# Altium integrated library Renesas Microcontroller M32C.IntLib: 109 symbols (part 6 of 11)
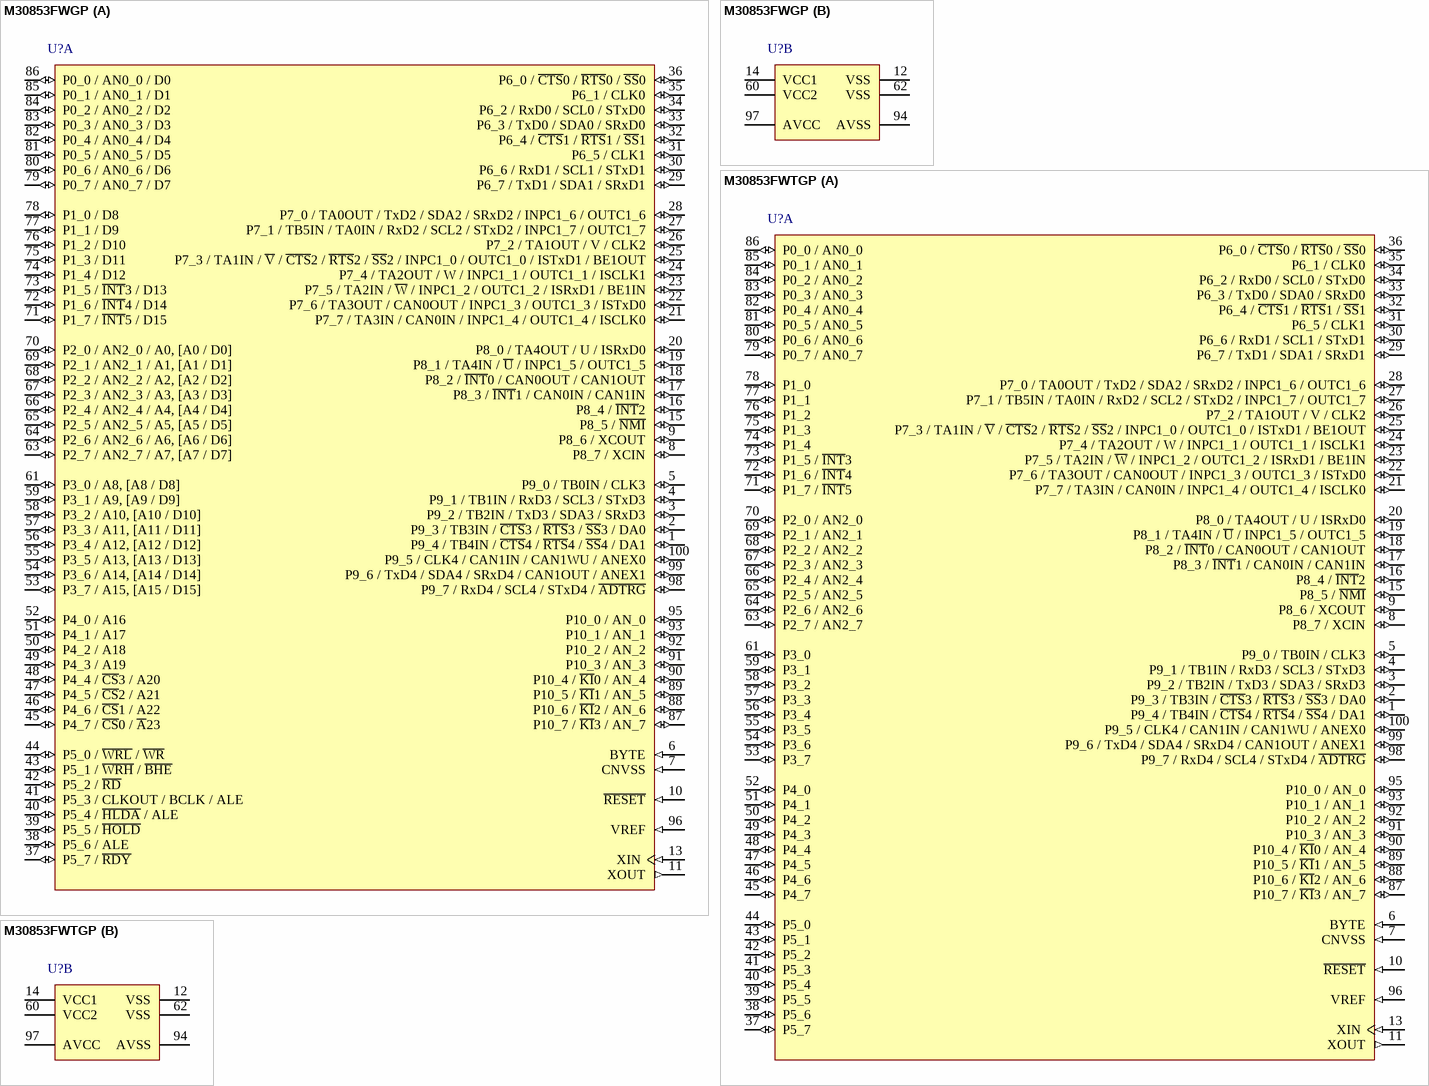
[diagram p79: symbols M30853FWGP to M30853FWTGP]

## M30853FWTGP
designator U?
Flash Memory M32C/80 Series, 85 Group MCU, 320K + 4K ROM, 24K RAM, 100-pin LQFP, Version T; Note: Bus control pins in M32C/85T cannot be used.; Published: 28-Aug-2009; DatasheetVersion: Rev.1.03, Jul-2005; PackageVersion: Sep-2005; PackageReference: PLQP0100KB-A; Publisher: Altium Limited; PackageDescription: 100-Pin Plastic Low Profile QFP, 14 x 14 x 1.4 mm Body, 0.5 mm Pitch; Code_JEITA: P-LQFP100-14x14-0.50; Code_IPC: SQFP50P1600X1600-100; ComponentLink1Description: Manufacturer Link; ComponentLink1URL: http://sg.renesas.com/fmwk.jsp?cnt=m16c_family_landing.jsp&fp=/products/mpumcu/m16c_family/; ComponentLink2Description: Datasheet; ComponentLink2URL: http://documentation.renesas.com/eng/products/mpumcu/rej09b0037_32c85hm.pdf; ComponentLink3Description: Packaging Specification; ComponentLink3URL: http://sg.renesas.com/media/products/common_info/package/pdf/ic/code/plqp0100kb_a.pdf
footprint PLQP0100KB-A_N (Shrink QFP, 100-Leads, Body 14x14mm, Pitch 0.5mm, IPC Medium Density)
footprint PLQP0100KB-A_L (Shrink QFP, 100-Leads, Body 14x14mm, Pitch 0.5mm, IPC High Density)
footprint PLQP0100KB-A_M (Shrink QFP, 100-Leads, Body 14x14mm, Pitch 0.5mm, IPC Low Density)
part A pins: 1 P9_4 / TB4IN / ~{CTS}4 / ~{RTS}4 / ~{SS}4 / DA1 (io), 2 P9_3 / TB3IN / ~{CTS}3 / ~{RTS}3 / ~{SS}3 / DA0 (io), 3 P9_2 / TB2IN / TxD3 / SDA3 / SRxD3 (io), 4 P9_1 / TB1IN / RxD3 / SCL3 / STxD3 (io), 5 P9_0 / TB0IN / CLK3 (io), 6 BYTE (in), 7 CNVSS (in), 8 P8_7 / XCIN (io), 9 P8_6 / XCOUT (io), 10 ~{RESET} (in), 11 XOUT (out), 13 XIN (in), 15 P8_5 / ~{NMI} (io), 16 P8_4 / ~{INT}2 (io), 17 P8_3 / ~{INT}1 / CAN0IN / CAN1IN (io), 18 P8_2 / ~{INT}0 / CAN0OUT / CAN1OUT (io), 19 P8_1 / TA4IN / ~{U} / INPC1_5 / OUTC1_5 (io), 20 P8_0 / TA4OUT / U / ISRxD0 (io), 21 P7_7 / TA3IN / CAN0IN / INPC1_4 / OUTC1_4 / ISCLK0 (io), 22 P7_6 / TA3OUT / CAN0OUT / INPC1_3 / OUTC1_3 / ISTxD0 (io), 23 P7_5 / TA2IN / ~{W} / INPC1_2 / OUTC1_2 / ISRxD1 / BE1IN (io), 24 P7_4 / TA2OUT / W / INPC1_1 / OUTC1_1 / ISCLK1 (io), 25 P7_3 / TA1IN / ~{V} / ~{CTS}2 / ~{RTS}2 / ~{SS}2 / INPC1_0 / OUTC1_0 / ISTxD1 / BE1OUT (io), 26 P7_2 / TA1OUT / V / CLK2 (io), 27 P7_1 / TB5IN / TA0IN / RxD2 / SCL2 / STxD2 / INPC1_7 / OUTC1_7 (io), 28 P7_0 / TA0OUT / TxD2 / SDA2 / SRxD2 / INPC1_6 / OUTC1_6 (io), 29 P6_7 / TxD1 / SDA1 / SRxD1 (io), 30 P6_6 / RxD1 / SCL1 / STxD1 (io), 31 P6_5 / CLK1 (io), 32 P6_4 / ~{CTS}1 / ~{RTS}1 / ~{SS}1 (io), 33 P6_3 / TxD0 / SDA0 / SRxD0 (io), 34 P6_2 / RxD0 / SCL0 / STxD0 (io), 35 P6_1 / CLK0 (io), 36 P6_0 / ~{CTS}0 / ~{RTS}0 / ~{SS}0 (io), 37 P5_7 (io), 38 P5_6 (io), 39 P5_5 (io), 40 P5_4 (io), 41 P5_3 (io), 42 P5_2 (io), 43 P5_1 (io), 44 P5_0 (io), 45 P4_7 (io), 46 P4_6 (io), 47 P4_5 (io), 48 P4_4 (io), 49 P4_3 (io), 50 P4_2 (io), 51 P4_1 (io), 52 P4_0 (io), 53 P3_7 (io), 54 P3_6 (io), 55 P3_5 (io), 56 P3_4 (io), 57 P3_3 (io), 58 P3_2 (io), 59 P3_1 (io), 61 P3_0 (io), 63 P2_7 / AN2_7 (io), 64 P2_6 / AN2_6 (io), 65 P2_5 / AN2_5 (io), 66 P2_4 / AN2_4 (io), 67 P2_3 / AN2_3 (io), 68 P2_2 / AN2_2 (io), 69 P2_1 / AN2_1 (io), 70 P2_0 / AN2_0 (io), 71 P1_7 / ~{INT}5 (io), 72 P1_6 / ~{INT}4 (io), 73 P1_5 / ~{INT}3 (io), 74 P1_4 (io), 75 P1_3 (io), 76 P1_2 (io), 77 P1_1 (io), 78 P1_0 (io), 79 P0_7 / AN0_7 (io), 80 P0_6 / AN0_6 (io), 81 P0_5 / AN0_5 (io), 82 P0_4 / AN0_4 (io), 83 P0_3 / AN0_3 (io), 84 P0_2 / AN0_2 (io), 85 P0_1 / AN0_1 (io), 86 P0_0 / AN0_0 (io), 87 P10_7 / ~{KI}3 / AN_7 (io), 88 P10_6 / ~{KI}2 / AN_6 (io), 89 P10_5 / ~{KI}1 / AN_5 (io), 90 P10_4 / ~{KI}0 / AN_4 (io), 91 P10_3 / AN_3 (io), 92 P10_2 / AN_2 (io), 93 P10_1 / AN_1 (io), 95 P10_0 / AN_0 (io), 96 VREF (in), 98 P9_7 / RxD4 / SCL4 / STxD4 / ~{ADTRG} (io), 99 P9_6 / TxD4 / SDA4 / SRxD4 / CAN1OUT / ANEX1 (io), 100 P9_5 / CLK4 / CAN1IN / CAN1WU / ANEX0 (io)
part B pins: 12 VSS (power), 14 VCC1 (power), 60 VCC2 (power), 62 VSS (power), 94 AVSS (power), 97 AVCC (power)

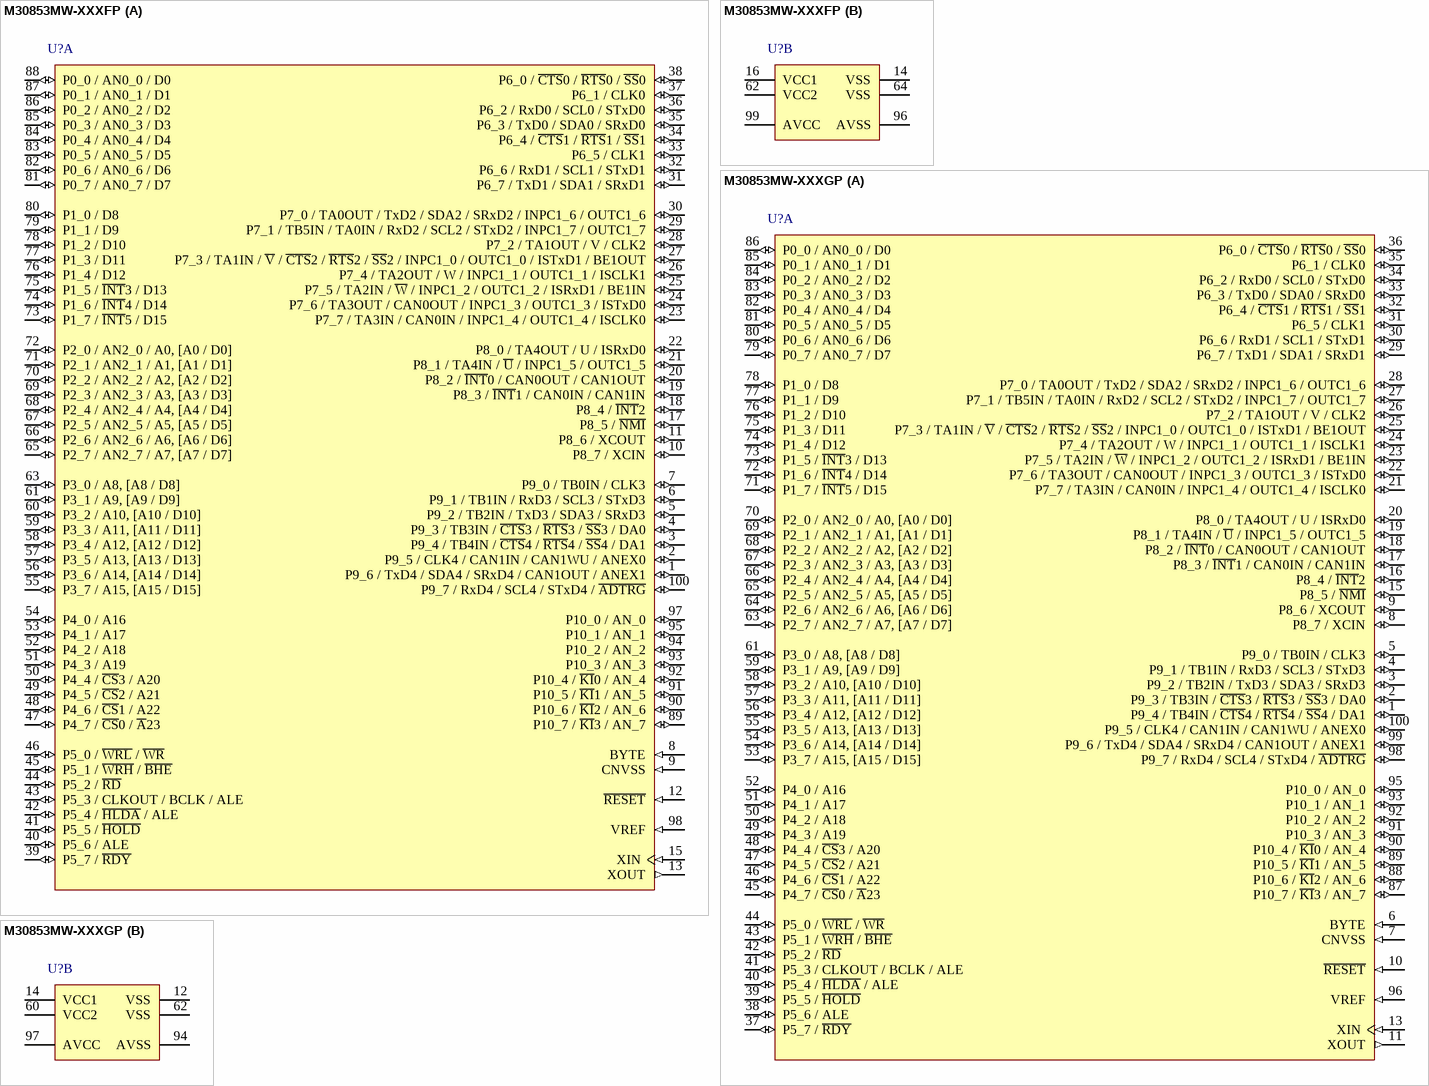
[diagram p29: symbols M30853MW-XXXFP to M30853MW-XXXGP]

## M30853MW-XXXFP
designator U?
Mask ROM M32C/80 Series, 85 Group MCU, 320K ROM, 24K RAM, 100-pin RQFP; Published: 28-Aug-2009; DatasheetVersion: Rev.1.03, Jul-2005; PackageVersion: Sep-2005; PackageReference: PRQP0100JB-A; Publisher: Altium Limited; PackageDescription: 100-Pin Plastic Quad Flat Pack, 20 x 14 x 2.8 mm Body, 0.65 mm Pitch; Code_JEITA: P-QFP100-14x20-0.65; ComponentLink1Description: Manufacturer Link; ComponentLink1URL: http://sg.renesas.com/fmwk.jsp?cnt=m16c_family_landing.jsp&fp=/products/mpumcu/m16c_family/; ComponentLink2Description: Datasheet; ComponentLink2URL: http://documentation.renesas.com/eng/products/mpumcu/rej09b0037_32c85hm.pdf; ComponentLink3Description: Packaging Specification; ComponentLink3URL: http://sg.renesas.com/media/products/common_info/package/pdf/ic/code/prqp0100jb_a.pdf
footprint PRQP0100JB-A_N (QFP, 100-Leads, Body 20x14mm, Pitch 0.65mm, IPC Medium Density)
footprint PRQP0100JB-A_L (QFP, 100-Leads, Body 20x14mm, Pitch 0.65mm, IPC High Density)
footprint PRQP0100JB-A_M (QFP, 100-Leads, Body 20x14mm, Pitch 0.65mm, IPC Low Density)
part A pins: 1 P9_6 / TxD4 / SDA4 / SRxD4 / CAN1OUT / ANEX1 (io), 2 P9_5 / CLK4 / CAN1IN / CAN1WU / ANEX0 (io), 3 P9_4 / TB4IN / ~{CTS}4 / ~{RTS}4 / ~{SS}4 / DA1 (io), 4 P9_3 / TB3IN / ~{CTS}3 / ~{RTS}3 / ~{SS}3 / DA0 (io), 5 P9_2 / TB2IN / TxD3 / SDA3 / SRxD3 (io), 6 P9_1 / TB1IN / RxD3 / SCL3 / STxD3 (io), 7 P9_0 / TB0IN / CLK3 (io), 8 BYTE (in), 9 CNVSS (in), 10 P8_7 / XCIN (io), 11 P8_6 / XCOUT (io), 12 ~{RESET} (in), 13 XOUT (out), 15 XIN (in), 17 P8_5 / ~{NMI} (io), 18 P8_4 / ~{INT}2 (io), 19 P8_3 / ~{INT}1 / CAN0IN / CAN1IN (io), 20 P8_2 / ~{INT}0 / CAN0OUT / CAN1OUT (io), 21 P8_1 / TA4IN / ~{U} / INPC1_5 / OUTC1_5 (io), 22 P8_0 / TA4OUT / U / ISRxD0 (io), 23 P7_7 / TA3IN / CAN0IN / INPC1_4 / OUTC1_4 / ISCLK0 (io), 24 P7_6 / TA3OUT / CAN0OUT / INPC1_3 / OUTC1_3 / ISTxD0 (io), 25 P7_5 / TA2IN / ~{W} / INPC1_2 / OUTC1_2 / ISRxD1 / BE1IN (io), 26 P7_4 / TA2OUT / W / INPC1_1 / OUTC1_1 / ISCLK1 (io), 27 P7_3 / TA1IN / ~{V} / ~{CTS}2 / ~{RTS}2 / ~{SS}2 / INPC1_0 / OUTC1_0 / ISTxD1 / BE1OUT (io), 28 P7_2 / TA1OUT / V / CLK2 (io), 29 P7_1 / TB5IN / TA0IN / RxD2 / SCL2 / STxD2 / INPC1_7 / OUTC1_7 (io), 30 P7_0 / TA0OUT / TxD2 / SDA2 / SRxD2 / INPC1_6 / OUTC1_6 (io), 31 P6_7 / TxD1 / SDA1 / SRxD1 (io), 32 P6_6 / RxD1 / SCL1 / STxD1 (io), 33 P6_5 / CLK1 (io), 34 P6_4 / ~{CTS}1 / ~{RTS}1 / ~{SS}1 (io), 35 P6_3 / TxD0 / SDA0 / SRxD0 (io), 36 P6_2 / RxD0 / SCL0 / STxD0 (io), 37 P6_1 / CLK0 (io), 38 P6_0 / ~{CTS}0 / ~{RTS}0 / ~{SS}0 (io), 39 P5_7 / ~{RDY} (io), 40 P5_6 / ALE (io), 41 P5_5 / ~{HOLD} (io), 42 P5_4 / ~{HLDA} / ALE (io), 43 P5_3 / CLKOUT / BCLK / ALE (io), 44 P5_2 / ~{RD} (io), 45 P5_1 / ~{WRH} / ~{BHE} (io), 46 P5_0 / ~{WRL} / ~{WR} (io), 47 P4_7 / ~{CS}0 / ~{A}23 (io), 48 P4_6 / ~{CS}1 / A22 (io), 49 P4_5 / ~{CS}2 / A21 (io), 50 P4_4 / ~{CS}3 / A20 (io), 51 P4_3 / A19 (io), 52 P4_2 / A18 (io), 53 P4_1 / A17 (io), 54 P4_0 / A16 (io), 55 P3_7 / A15, [A15 / D15] (io), 56 P3_6 / A14, [A14 / D14] (io), 57 P3_5 / A13, [A13 / D13] (io), 58 P3_4 / A12, [A12 / D12] (io), 59 P3_3 / A11, [A11 / D11] (io), 60 P3_2 / A10, [A10 / D10] (io), 61 P3_1 / A9, [A9 / D9] (io), 63 P3_0 / A8, [A8 / D8] (io), 65 P2_7 / AN2_7 / A7, [A7 / D7] (io), 66 P2_6 / AN2_6 / A6, [A6 / D6] (io), 67 P2_5 / AN2_5 / A5, [A5 / D5] (io), 68 P2_4 / AN2_4 / A4, [A4 / D4] (io), 69 P2_3 / AN2_3 / A3, [A3 / D3] (io), 70 P2_2 / AN2_2 / A2, [A2 / D2] (io), 71 P2_1 / AN2_1 / A1, [A1 / D1] (io), 72 P2_0 / AN2_0 / A0, [A0 / D0] (io), 73 P1_7 / ~{INT}5 / D15 (io), 74 P1_6 / ~{INT}4 / D14 (io), 75 P1_5 / ~{INT}3 / D13 (io), 76 P1_4 / D12 (io), 77 P1_3 / D11 (io), 78 P1_2 / D10 (io), 79 P1_1 / D9 (io), 80 P1_0 / D8 (io), 81 P0_7 / AN0_7 / D7 (io), 82 P0_6 / AN0_6 / D6 (io), 83 P0_5 / AN0_5 / D5 (io), 84 P0_4 / AN0_4 / D4 (io), 85 P0_3 / AN0_3 / D3 (io), 86 P0_2 / AN0_2 / D2 (io), 87 P0_1 / AN0_1 / D1 (io), 88 P0_0 / AN0_0 / D0 (io), 89 P10_7 / ~{KI}3 / AN_7 (io), 90 P10_6 / ~{KI}2 / AN_6 (io), 91 P10_5 / ~{KI}1 / AN_5 (io), 92 P10_4 / ~{KI}0 / AN_4 (io), 93 P10_3 / AN_3 (io), 94 P10_2 / AN_2 (io), 95 P10_1 / AN_1 (io), 97 P10_0 / AN_0 (io), 98 VREF (in), 100 P9_7 / RxD4 / SCL4 / STxD4 / ~{ADTRG} (io)
part B pins: 14 VSS (power), 16 VCC1 (power), 62 VCC2 (power), 64 VSS (power), 96 AVSS (power), 99 AVCC (power)

## M30853MW-XXXGP
designator U?
Mask ROM M32C/80 Series, 85 Group MCU, 320K ROM, 24K RAM, 100-pin LQFP; Published: 28-Aug-2009; DatasheetVersion: Rev.1.03, Jul-2005; PackageVersion: Sep-2005; PackageReference: PLQP0100KB-A; Publisher: Altium Limited; PackageDescription: 100-Pin Plastic Low Profile QFP, 14 x 14 x 1.4 mm Body, 0.5 mm Pitch; Code_JEITA: P-LQFP100-14x14-0.50; Code_IPC: SQFP50P1600X1600-100; ComponentLink1Description: Manufacturer Link; ComponentLink1URL: http://sg.renesas.com/fmwk.jsp?cnt=m16c_family_landing.jsp&fp=/products/mpumcu/m16c_family/; ComponentLink2Description: Datasheet; ComponentLink2URL: http://documentation.renesas.com/eng/products/mpumcu/rej09b0037_32c85hm.pdf; ComponentLink3Description: Packaging Specification; ComponentLink3URL: http://sg.renesas.com/media/products/common_info/package/pdf/ic/code/plqp0100kb_a.pdf
footprint PLQP0100KB-A_N (Shrink QFP, 100-Leads, Body 14x14mm, Pitch 0.5mm, IPC Medium Density)
footprint PLQP0100KB-A_L (Shrink QFP, 100-Leads, Body 14x14mm, Pitch 0.5mm, IPC High Density)
footprint PLQP0100KB-A_M (Shrink QFP, 100-Leads, Body 14x14mm, Pitch 0.5mm, IPC Low Density)
part A pins: 1 P9_4 / TB4IN / ~{CTS}4 / ~{RTS}4 / ~{SS}4 / DA1 (io), 2 P9_3 / TB3IN / ~{CTS}3 / ~{RTS}3 / ~{SS}3 / DA0 (io), 3 P9_2 / TB2IN / TxD3 / SDA3 / SRxD3 (io), 4 P9_1 / TB1IN / RxD3 / SCL3 / STxD3 (io), 5 P9_0 / TB0IN / CLK3 (io), 6 BYTE (in), 7 CNVSS (in), 8 P8_7 / XCIN (io), 9 P8_6 / XCOUT (io), 10 ~{RESET} (in), 11 XOUT (out), 13 XIN (in), 15 P8_5 / ~{NMI} (io), 16 P8_4 / ~{INT}2 (io), 17 P8_3 / ~{INT}1 / CAN0IN / CAN1IN (io), 18 P8_2 / ~{INT}0 / CAN0OUT / CAN1OUT (io), 19 P8_1 / TA4IN / ~{U} / INPC1_5 / OUTC1_5 (io), 20 P8_0 / TA4OUT / U / ISRxD0 (io), 21 P7_7 / TA3IN / CAN0IN / INPC1_4 / OUTC1_4 / ISCLK0 (io), 22 P7_6 / TA3OUT / CAN0OUT / INPC1_3 / OUTC1_3 / ISTxD0 (io), 23 P7_5 / TA2IN / ~{W} / INPC1_2 / OUTC1_2 / ISRxD1 / BE1IN (io), 24 P7_4 / TA2OUT / W / INPC1_1 / OUTC1_1 / ISCLK1 (io), 25 P7_3 / TA1IN / ~{V} / ~{CTS}2 / ~{RTS}2 / ~{SS}2 / INPC1_0 / OUTC1_0 / ISTxD1 / BE1OUT (io), 26 P7_2 / TA1OUT / V / CLK2 (io), 27 P7_1 / TB5IN / TA0IN / RxD2 / SCL2 / STxD2 / INPC1_7 / OUTC1_7 (io), 28 P7_0 / TA0OUT / TxD2 / SDA2 / SRxD2 / INPC1_6 / OUTC1_6 (io), 29 P6_7 / TxD1 / SDA1 / SRxD1 (io), 30 P6_6 / RxD1 / SCL1 / STxD1 (io), 31 P6_5 / CLK1 (io), 32 P6_4 / ~{CTS}1 / ~{RTS}1 / ~{SS}1 (io), 33 P6_3 / TxD0 / SDA0 / SRxD0 (io), 34 P6_2 / RxD0 / SCL0 / STxD0 (io), 35 P6_1 / CLK0 (io), 36 P6_0 / ~{CTS}0 / ~{RTS}0 / ~{SS}0 (io), 37 P5_7 / ~{RDY} (io), 38 P5_6 / ALE (io), 39 P5_5 / ~{HOLD} (io), 40 P5_4 / ~{HLDA} / ALE (io), 41 P5_3 / CLKOUT / BCLK / ALE (io), 42 P5_2 / ~{RD} (io), 43 P5_1 / ~{WRH} / ~{BHE} (io), 44 P5_0 / ~{WRL} / ~{WR} (io), 45 P4_7 / ~{CS}0 / ~{A}23 (io), 46 P4_6 / ~{CS}1 / A22 (io), 47 P4_5 / ~{CS}2 / A21 (io), 48 P4_4 / ~{CS}3 / A20 (io), 49 P4_3 / A19 (io), 50 P4_2 / A18 (io), 51 P4_1 / A17 (io), 52 P4_0 / A16 (io), 53 P3_7 / A15, [A15 / D15] (io), 54 P3_6 / A14, [A14 / D14] (io), 55 P3_5 / A13, [A13 / D13] (io), 56 P3_4 / A12, [A12 / D12] (io), 57 P3_3 / A11, [A11 / D11] (io), 58 P3_2 / A10, [A10 / D10] (io), 59 P3_1 / A9, [A9 / D9] (io), 61 P3_0 / A8, [A8 / D8] (io), 63 P2_7 / AN2_7 / A7, [A7 / D7] (io), 64 P2_6 / AN2_6 / A6, [A6 / D6] (io), 65 P2_5 / AN2_5 / A5, [A5 / D5] (io), 66 P2_4 / AN2_4 / A4, [A4 / D4] (io), 67 P2_3 / AN2_3 / A3, [A3 / D3] (io), 68 P2_2 / AN2_2 / A2, [A2 / D2] (io), 69 P2_1 / AN2_1 / A1, [A1 / D1] (io), 70 P2_0 / AN2_0 / A0, [A0 / D0] (io), 71 P1_7 / ~{INT}5 / D15 (io), 72 P1_6 / ~{INT}4 / D14 (io), 73 P1_5 / ~{INT}3 / D13 (io), 74 P1_4 / D12 (io), 75 P1_3 / D11 (io), 76 P1_2 / D10 (io), 77 P1_1 / D9 (io), 78 P1_0 / D8 (io), 79 P0_7 / AN0_7 / D7 (io), 80 P0_6 / AN0_6 / D6 (io), 81 P0_5 / AN0_5 / D5 (io), 82 P0_4 / AN0_4 / D4 (io), 83 P0_3 / AN0_3 / D3 (io), 84 P0_2 / AN0_2 / D2 (io), 85 P0_1 / AN0_1 / D1 (io), 86 P0_0 / AN0_0 / D0 (io), 87 P10_7 / ~{KI}3 / AN_7 (io), 88 P10_6 / ~{KI}2 / AN_6 (io), 89 P10_5 / ~{KI}1 / AN_5 (io), 90 P10_4 / ~{KI}0 / AN_4 (io), 91 P10_3 / AN_3 (io), 92 P10_2 / AN_2 (io), 93 P10_1 / AN_1 (io), 95 P10_0 / AN_0 (io), 96 VREF (in), 98 P9_7 / RxD4 / SCL4 / STxD4 / ~{ADTRG} (io), 99 P9_6 / TxD4 / SDA4 / SRxD4 / CAN1OUT / ANEX1 (io), 100 P9_5 / CLK4 / CAN1IN / CAN1WU / ANEX0 (io)
part B pins: 12 VSS (power), 14 VCC1 (power), 60 VCC2 (power), 62 VSS (power), 94 AVSS (power), 97 AVCC (power)

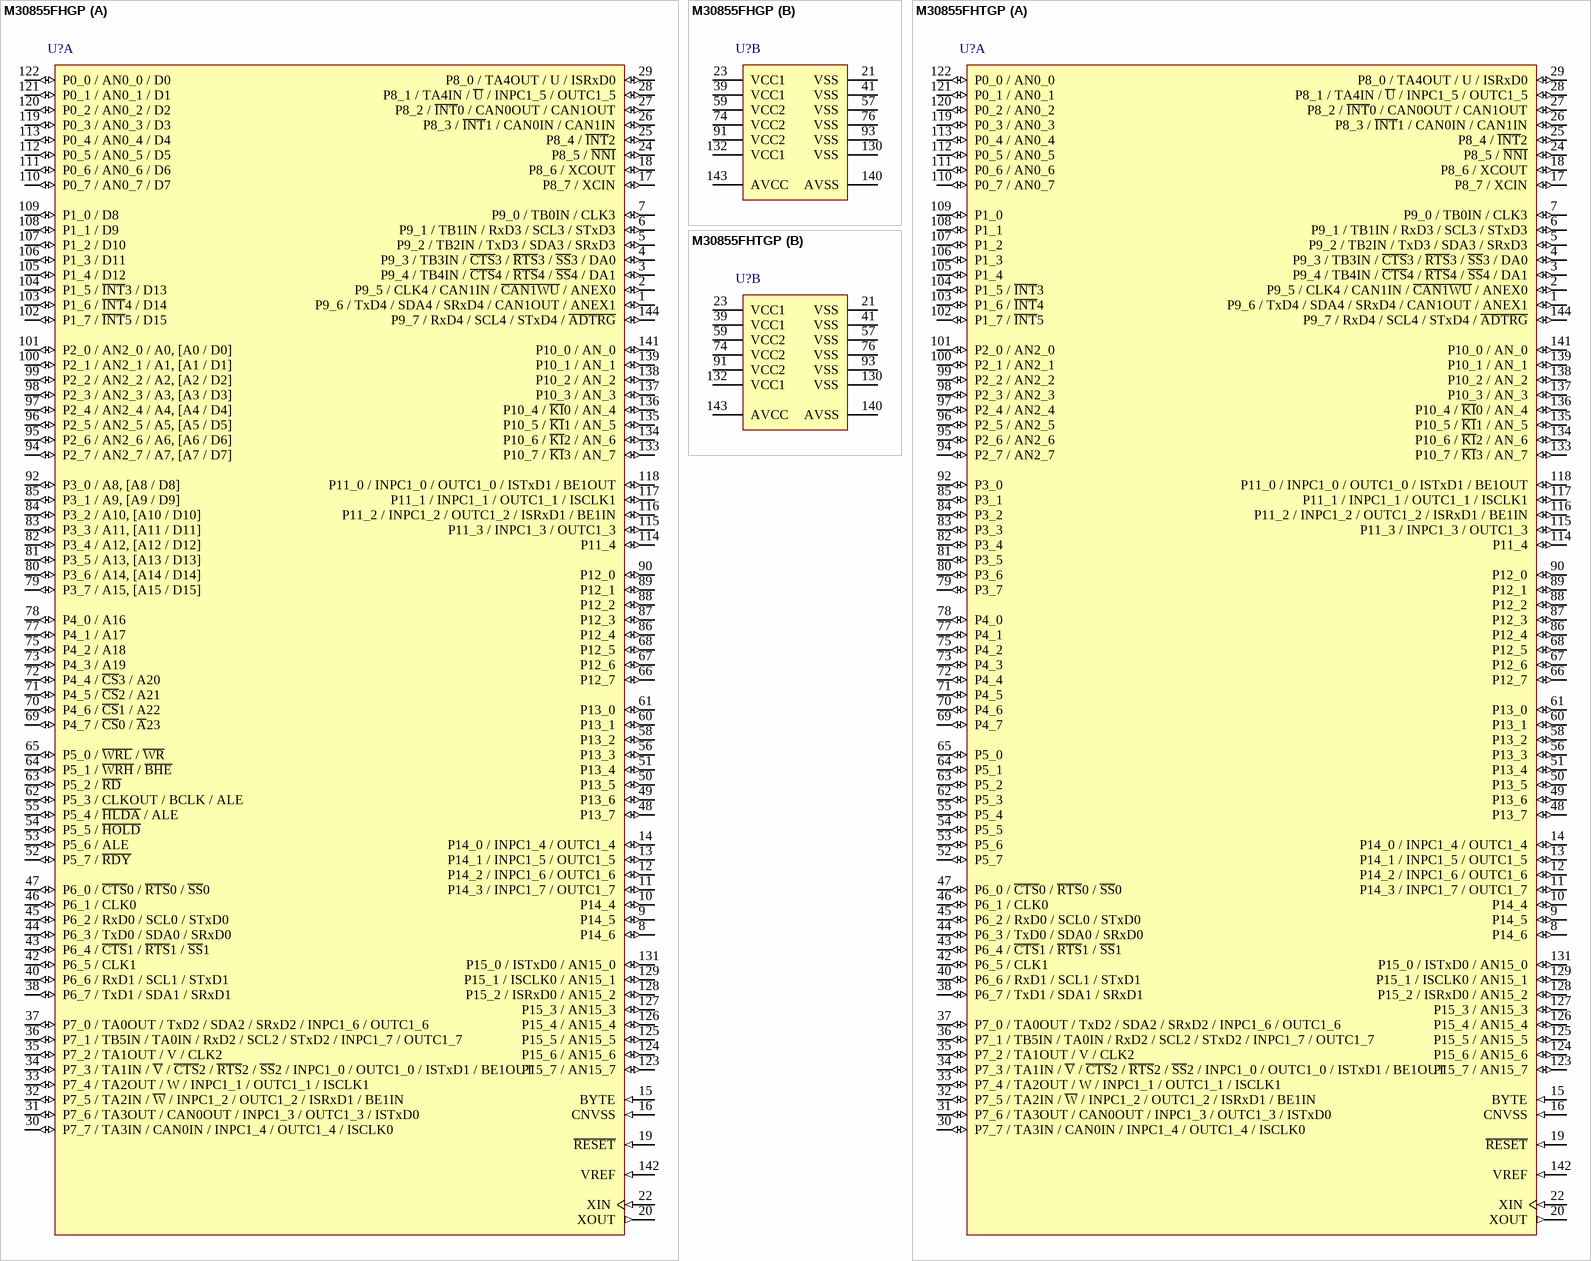
[diagram p30: symbols M30855FHGP to M30855FHTGP]

## M30855FHGP
designator U?
Flash Memory M32C/80 Series, 85 Group MCU, 384K + 4K ROM, 24K RAM, 144-pin LQFP; Published: 28-Aug-2009; DatasheetVersion: Rev.1.03, Jul-2005; PackageVersion: Sep-2005; PackageReference: PLQP0144KA-A; Publisher: Altium Limited; PackageDescription: 144-Pin Plastic Low Profile QFP, 20 x 20 x 1.4 mm Body, 0.5 mm Pitch; Code_JEITA: P-LQFP144-20x20-0.50; Code_IPC: SQFP50P2200X2200-144; ComponentLink1Description: Manufacturer Link; ComponentLink1URL: http://sg.renesas.com/fmwk.jsp?cnt=m16c_family_landing.jsp&fp=/products/mpumcu/m16c_family/; ComponentLink2Description: Datasheet; ComponentLink2URL: http://documentation.renesas.com/eng/products/mpumcu/rej09b0037_32c85hm.pdf; ComponentLink3Description: Packaging Specification; ComponentLink3URL: http://sg.renesas.com/media/products/common_info/package/pdf/ic/code/plqp0144ka_a.pdf
footprint PLQP0144KA-A_N (Shrink QFP, 144-Leads, Body 20x20mm, Pitch 0.5mm, IPC Medium Density)
footprint PLQP0144KA-A_L (Shrink QFP, 144-Leads, Body 20x20mm, Pitch 0.5mm, IPC High Density)
footprint PLQP0144KA-A_M (Shrink QFP, 144-Leads, Body 20x20mm, Pitch 0.5mm, IPC Low Density)
part A pins: 1 P9_6 / TxD4 / SDA4 / SRxD4 / CAN1OUT / ANEX1 (io), 2 P9_5 / CLK4 / CAN1IN / ~{CAN1WU} / ANEX0 (io), 3 P9_4 / TB4IN / ~{CTS}4 / ~{RTS}4 / ~{SS}4 / DA1 (io), 4 P9_3 / TB3IN / ~{CTS}3 / ~{RTS}3 / ~{SS}3 / DA0 (io), 5 P9_2 / TB2IN / TxD3 / SDA3 / SRxD3 (io), 6 P9_1 / TB1IN / RxD3 / SCL3 / STxD3 (io), 7 P9_0 / TB0IN / CLK3 (io), 8 P14_6 (io), 9 P14_5 (io), 10 P14_4 (io), 11 P14_3 / INPC1_7 / OUTC1_7 (io), 12 P14_2 / INPC1_6 / OUTC1_6 (io), 13 P14_1 / INPC1_5 / OUTC1_5 (io), 14 P14_0 / INPC1_4 / OUTC1_4 (io), 15 BYTE (in), 16 CNVSS (in), 17 P8_7 / XCIN (io), 18 P8_6 / XCOUT (io), 19 ~{RESET} (in), 20 XOUT (out), 22 XIN (in), 24 P8_5 / ~{NNI} (io), 25 P8_4 / ~{INT}2 (io), 26 P8_3 / ~{INT}1 / CAN0IN / CAN1IN (io), 27 P8_2 / ~{INT}0 / CAN0OUT / CAN1OUT (io), 28 P8_1 / TA4IN / ~{U} / INPC1_5 / OUTC1_5 (io), 29 P8_0 / TA4OUT / U / ISRxD0 (io), 30 P7_7 / TA3IN / CAN0IN / INPC1_4 / OUTC1_4 / ISCLK0 (io), 31 P7_6 / TA3OUT / CAN0OUT / INPC1_3 / OUTC1_3 / ISTxD0 (io), 32 P7_5 / TA2IN / ~{W} / INPC1_2 / OUTC1_2 / ISRxD1 / BE1IN (io), 33 P7_4 / TA2OUT / W / INPC1_1 / OUTC1_1 / ISCLK1 (io), 34 P7_3 / TA1IN / ~{V} / ~{CTS}2 / ~{RTS}2 / ~{SS}2 / INPC1_0 / OUTC1_0 / ISTxD1 / BE1OUT (io), 35 P7_2 / TA1OUT / V / CLK2 (io), 36 P7_1 / TB5IN / TA0IN / RxD2 / SCL2 / STxD2 / INPC1_7 / OUTC1_7 (io), 37 P7_0 / TA0OUT / TxD2 / SDA2 / SRxD2 / INPC1_6 / OUTC1_6 (io), 38 P6_7 / TxD1 / SDA1 / SRxD1 (io), 40 P6_6 / RxD1 / SCL1 / STxD1 (io), 42 P6_5 / CLK1 (io), 43 P6_4 / ~{CTS}1 / ~{RTS}1 / ~{SS}1 (io), 44 P6_3 / TxD0 / SDA0 / SRxD0 (io), 45 P6_2 / RxD0 / SCL0 / STxD0 (io), 46 P6_1 / CLK0 (io), 47 P6_0 / ~{CTS}0 / ~{RTS}0 / ~{SS}0 (io), 48 P13_7 (io), 49 P13_6 (io), 50 P13_5 (io), 51 P13_4 (io), 52 P5_7 / ~{RDY} (io), 53 P5_6 / ALE (io), 54 P5_5 / ~{HOLD} (io), 55 P5_4 / ~{HLDA} / ALE (io), 56 P13_3 (io), 58 P13_2 (io), 60 P13_1 (io), 61 P13_0 (io), 62 P5_3 / CLKOUT / BCLK / ALE (io), 63 P5_2 / ~{RD} (io), 64 P5_1 / ~{WRH} / ~{BHE} (io), 65 P5_0 / ~{WRL} / ~{WR} (io), 66 P12_7 (io), 67 P12_6 (io), 68 P12_5 (io), 69 P4_7 / ~{CS}0 / ~{A}23 (io), 70 P4_6 / ~{CS}1 / A22 (io), 71 P4_5 / ~{CS}2 / A21 (io), 72 P4_4 / ~{CS}3 / A20 (io), 73 P4_3 / A19 (io), 75 P4_2 / A18 (io), 77 P4_1 / A17 (io), 78 P4_0 / A16 (io), 79 P3_7 / A15, [A15 / D15] (io), 80 P3_6 / A14, [A14 / D14] (io), 81 P3_5 / A13, [A13 / D13] (io), 82 P3_4 / A12, [A12 / D12] (io), 83 P3_3 / A11, [A11 / D11] (io), 84 P3_2 / A10, [A10 / D10] (io), 85 P3_1 / A9, [A9 / D9] (io), 86 P12_4 (io), 87 P12_3 (io), 88 P12_2 (io), 89 P12_1 (io), 90 P12_0 (io), 92 P3_0 / A8, [A8 / D8] (io), 94 P2_7 / AN2_7 / A7, [A7 / D7] (io), 95 P2_6 / AN2_6 / A6, [A6 / D6] (io), 96 P2_5 / AN2_5 / A5, [A5 / D5] (io), 97 P2_4 / AN2_4 / A4, [A4 / D4] (io), 98 P2_3 / AN2_3 / A3, [A3 / D3] (io), 99 P2_2 / AN2_2 / A2, [A2 / D2] (io), 100 P2_1 / AN2_1 / A1, [A1 / D1] (io), 101 P2_0 / AN2_0 / A0, [A0 / D0] (io), 102 P1_7 / ~{INT}5 / D15 (io), 103 P1_6 / ~{INT}4 / D14 (io), 104 P1_5 / ~{INT}3 / D13 (io), 105 P1_4 / D12 (io), 106 P1_3 / D11 (io), 107 P1_2 / D10 (io), 108 P1_1 / D9 (io), 109 P1_0 / D8 (io), 110 P0_7 / AN0_7 / D7 (io), 111 P0_6 / AN0_6 / D6 (io), 112 P0_5 / AN0_5 / D5 (io), 113 P0_4 / AN0_4 / D4 (io), 114 P11_4 (io), 115 P11_3 / INPC1_3 / OUTC1_3 (io), 116 P11_2 / INPC1_2 / OUTC1_2 / ISRxD1 / BE1IN (io), 117 P11_1 / INPC1_1 / OUTC1_1 / ISCLK1 (io), 118 P11_0 / INPC1_0 / OUTC1_0 / ISTxD1 / BE1OUT (io), 119 P0_3 / AN0_3 / D3 (io), 120 P0_2 / AN0_2 / D2 (io), 121 P0_1 / AN0_1 / D1 (io), 122 P0_0 / AN0_0 / D0 (io), 123 P15_7 / AN15_7 (io), 124 P15_6 / AN15_6 (io), 125 P15_5 / AN15_5 (io), 126 P15_4 / AN15_4 (io), 127 P15_3 / AN15_3 (io), 128 P15_2 / ISRxD0 / AN15_2 (io), 129 P15_1 / ISCLK0 / AN15_1 (io), 131 P15_0 / ISTxD0 / AN15_0 (io), 133 P10_7 / ~{KI}3 / AN_7 (io), 134 P10_6 / ~{KI}2 / AN_6 (io), 135 P10_5 / ~{KI}1 / AN_5 (io), 136 P10_4 / ~{KI}0 / AN_4 (io), 137 P10_3 / AN_3 (io), 138 P10_2 / AN_2 (io), 139 P10_1 / AN_1 (io), 141 P10_0 / AN_0 (io), 142 VREF (in), 144 P9_7 / RxD4 / SCL4 / STxD4 / ~{ADTRG} (io)
part B pins: 21 VSS (power), 23 VCC1 (power), 39 VCC1 (power), 41 VSS (power), 57 VSS (power), 59 VCC2 (power), 74 VCC2 (power), 76 VSS (power), 91 VCC2 (power), 93 VSS (power), 130 VSS (power), 132 VCC1 (power), 140 AVSS (power), 143 AVCC (power)

## M30855FHTGP
designator U?
Flash Memory M32C/80 Series, 85 Group MCU, 384K + 4K ROM, 24K RAM, 144-pin LQFP, Version T; Note: Bus control pins in M32C/85T cannot be used.; Published: 28-Aug-2009; DatasheetVersion: Rev.1.03, Jul-2005; PackageVersion: Sep-2005; PackageReference: PLQP0144KA-A; Publisher: Altium Limited; PackageDescription: 144-Pin Plastic Low Profile QFP, 20 x 20 x 1.4 mm Body, 0.5 mm Pitch; Code_JEITA: P-LQFP144-20x20-0.50; Code_IPC: SQFP50P2200X2200-144; ComponentLink1Description: Manufacturer Link; ComponentLink1URL: http://sg.renesas.com/fmwk.jsp?cnt=m16c_family_landing.jsp&fp=/products/mpumcu/m16c_family/; ComponentLink2Description: Datasheet; ComponentLink2URL: http://documentation.renesas.com/eng/products/mpumcu/rej09b0037_32c85hm.pdf; ComponentLink3Description: Packaging Specification; ComponentLink3URL: http://sg.renesas.com/media/products/common_info/package/pdf/ic/code/plqp0144ka_a.pdf
footprint PLQP0144KA-A_N (Shrink QFP, 144-Leads, Body 20x20mm, Pitch 0.5mm, IPC Medium Density)
footprint PLQP0144KA-A_L (Shrink QFP, 144-Leads, Body 20x20mm, Pitch 0.5mm, IPC High Density)
footprint PLQP0144KA-A_M (Shrink QFP, 144-Leads, Body 20x20mm, Pitch 0.5mm, IPC Low Density)
part A pins: 1 P9_6 / TxD4 / SDA4 / SRxD4 / CAN1OUT / ANEX1 (io), 2 P9_5 / CLK4 / CAN1IN / ~{CAN1WU} / ANEX0 (io), 3 P9_4 / TB4IN / ~{CTS}4 / ~{RTS}4 / ~{SS}4 / DA1 (io), 4 P9_3 / TB3IN / ~{CTS}3 / ~{RTS}3 / ~{SS}3 / DA0 (io), 5 P9_2 / TB2IN / TxD3 / SDA3 / SRxD3 (io), 6 P9_1 / TB1IN / RxD3 / SCL3 / STxD3 (io), 7 P9_0 / TB0IN / CLK3 (io), 8 P14_6 (io), 9 P14_5 (io), 10 P14_4 (io), 11 P14_3 / INPC1_7 / OUTC1_7 (io), 12 P14_2 / INPC1_6 / OUTC1_6 (io), 13 P14_1 / INPC1_5 / OUTC1_5 (io), 14 P14_0 / INPC1_4 / OUTC1_4 (io), 15 BYTE (in), 16 CNVSS (in), 17 P8_7 / XCIN (io), 18 P8_6 / XCOUT (io), 19 ~{RESET} (in), 20 XOUT (out), 22 XIN (in), 24 P8_5 / ~{NNI} (io), 25 P8_4 / ~{INT}2 (io), 26 P8_3 / ~{INT}1 / CAN0IN / CAN1IN (io), 27 P8_2 / ~{INT}0 / CAN0OUT / CAN1OUT (io), 28 P8_1 / TA4IN / ~{U} / INPC1_5 / OUTC1_5 (io), 29 P8_0 / TA4OUT / U / ISRxD0 (io), 30 P7_7 / TA3IN / CAN0IN / INPC1_4 / OUTC1_4 / ISCLK0 (io), 31 P7_6 / TA3OUT / CAN0OUT / INPC1_3 / OUTC1_3 / ISTxD0 (io), 32 P7_5 / TA2IN / ~{W} / INPC1_2 / OUTC1_2 / ISRxD1 / BE1IN (io), 33 P7_4 / TA2OUT / W / INPC1_1 / OUTC1_1 / ISCLK1 (io), 34 P7_3 / TA1IN / ~{V} / ~{CTS}2 / ~{RTS}2 / ~{SS}2 / INPC1_0 / OUTC1_0 / ISTxD1 / BE1OUT (io), 35 P7_2 / TA1OUT / V / CLK2 (io), 36 P7_1 / TB5IN / TA0IN / RxD2 / SCL2 / STxD2 / INPC1_7 / OUTC1_7 (io), 37 P7_0 / TA0OUT / TxD2 / SDA2 / SRxD2 / INPC1_6 / OUTC1_6 (io), 38 P6_7 / TxD1 / SDA1 / SRxD1 (io), 40 P6_6 / RxD1 / SCL1 / STxD1 (io), 42 P6_5 / CLK1 (io), 43 P6_4 / ~{CTS}1 / ~{RTS}1 / ~{SS}1 (io), 44 P6_3 / TxD0 / SDA0 / SRxD0 (io), 45 P6_2 / RxD0 / SCL0 / STxD0 (io), 46 P6_1 / CLK0 (io), 47 P6_0 / ~{CTS}0 / ~{RTS}0 / ~{SS}0 (io), 48 P13_7 (io), 49 P13_6 (io), 50 P13_5 (io), 51 P13_4 (io), 52 P5_7 (io), 53 P5_6 (io), 54 P5_5 (io), 55 P5_4 (io), 56 P13_3 (io), 58 P13_2 (io), 60 P13_1 (io), 61 P13_0 (io), 62 P5_3 (io), 63 P5_2 (io), 64 P5_1 (io), 65 P5_0 (io), 66 P12_7 (io), 67 P12_6 (io), 68 P12_5 (io), 69 P4_7 (io), 70 P4_6 (io), 71 P4_5 (io), 72 P4_4 (io), 73 P4_3 (io), 75 P4_2 (io), 77 P4_1 (io), 78 P4_0 (io), 79 P3_7 (io), 80 P3_6 (io), 81 P3_5 (io), 82 P3_4 (io), 83 P3_3 (io), 84 P3_2 (io), 85 P3_1 (io), 86 P12_4 (io), 87 P12_3 (io), 88 P12_2 (io), 89 P12_1 (io), 90 P12_0 (io), 92 P3_0 (io), 94 P2_7 / AN2_7 (io), 95 P2_6 / AN2_6 (io), 96 P2_5 / AN2_5 (io), 97 P2_4 / AN2_4 (io), 98 P2_3 / AN2_3 (io), 99 P2_2 / AN2_2 (io), 100 P2_1 / AN2_1 (io), 101 P2_0 / AN2_0 (io), 102 P1_7 / ~{INT}5 (io), 103 P1_6 / ~{INT}4 (io), 104 P1_5 / ~{INT}3 (io), 105 P1_4 (io), 106 P1_3 (io), 107 P1_2 (io), 108 P1_1 (io), 109 P1_0 (io), 110 P0_7 / AN0_7 (io), 111 P0_6 / AN0_6 (io), 112 P0_5 / AN0_5 (io), 113 P0_4 / AN0_4 (io), 114 P11_4 (io), 115 P11_3 / INPC1_3 / OUTC1_3 (io), 116 P11_2 / INPC1_2 / OUTC1_2 / ISRxD1 / BE1IN (io), 117 P11_1 / INPC1_1 / OUTC1_1 / ISCLK1 (io), 118 P11_0 / INPC1_0 / OUTC1_0 / ISTxD1 / BE1OUT (io), 119 P0_3 / AN0_3 (io), 120 P0_2 / AN0_2 (io), 121 P0_1 / AN0_1 (io), 122 P0_0 / AN0_0 (io), 123 P15_7 / AN15_7 (io), 124 P15_6 / AN15_6 (io), 125 P15_5 / AN15_5 (io), 126 P15_4 / AN15_4 (io), 127 P15_3 / AN15_3 (io), 128 P15_2 / ISRxD0 / AN15_2 (io), 129 P15_1 / ISCLK0 / AN15_1 (io), 131 P15_0 / ISTxD0 / AN15_0 (io), 133 P10_7 / ~{KI}3 / AN_7 (io), 134 P10_6 / ~{KI}2 / AN_6 (io), 135 P10_5 / ~{KI}1 / AN_5 (io), 136 P10_4 / ~{KI}0 / AN_4 (io), 137 P10_3 / AN_3 (io), 138 P10_2 / AN_2 (io), 139 P10_1 / AN_1 (io), 141 P10_0 / AN_0 (io), 142 VREF (in), 144 P9_7 / RxD4 / SCL4 / STxD4 / ~{ADTRG} (io)
part B pins: 21 VSS (power), 23 VCC1 (power), 39 VCC1 (power), 41 VSS (power), 57 VSS (power), 59 VCC2 (power), 74 VCC2 (power), 76 VSS (power), 91 VCC2 (power), 93 VSS (power), 130 VSS (power), 132 VCC1 (power), 140 AVSS (power), 143 AVCC (power)

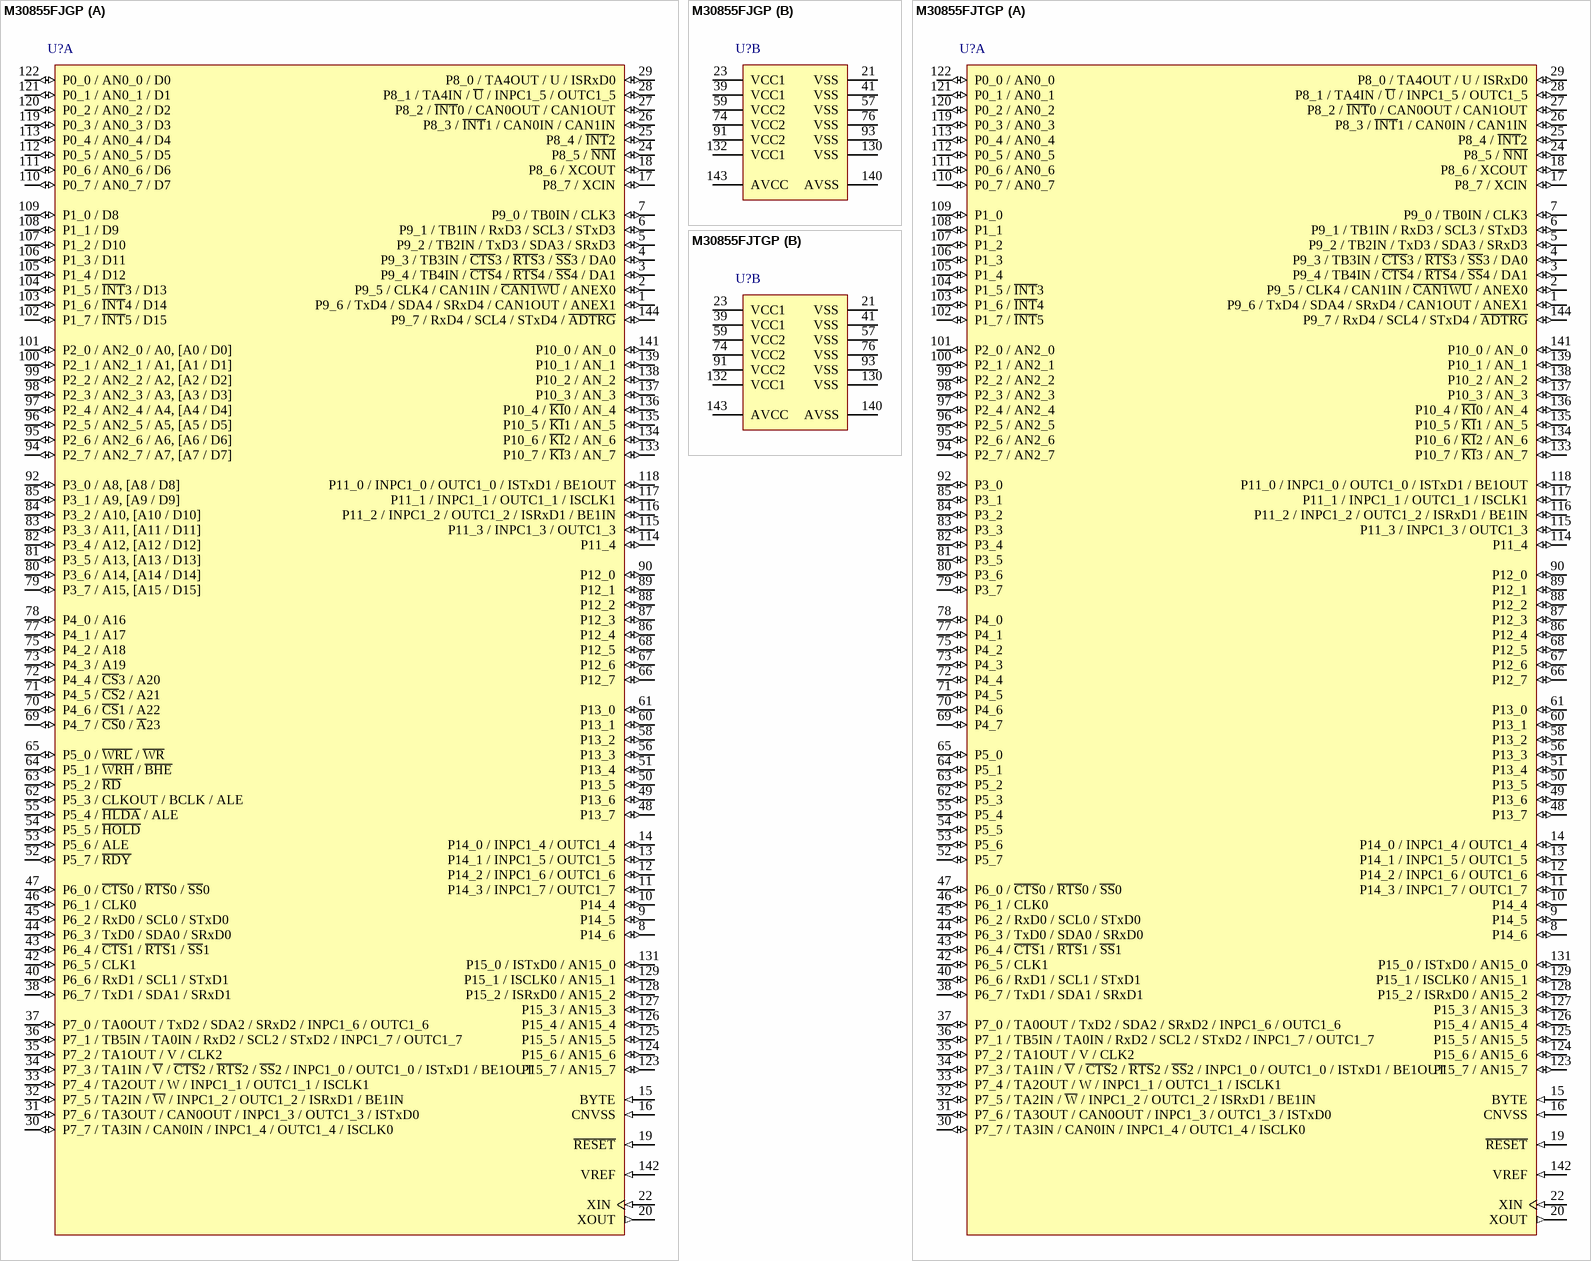
[diagram p31: symbols M30855FJGP to M30855FJTGP]

## M30855FJGP
designator U?
Flash Memory M32C/80 Series, 85 Group MCU, 512K + 4K ROM, 24K RAM, 144-pin LQFP; Published: 28-Aug-2009; DatasheetVersion: Rev.1.03, Jul-2005; PackageVersion: Sep-2005; PackageReference: PLQP0144KA-A; Publisher: Altium Limited; PackageDescription: 144-Pin Plastic Low Profile QFP, 20 x 20 x 1.4 mm Body, 0.5 mm Pitch; Code_JEITA: P-LQFP144-20x20-0.50; Code_IPC: SQFP50P2200X2200-144; ComponentLink1Description: Manufacturer Link; ComponentLink1URL: http://sg.renesas.com/fmwk.jsp?cnt=m16c_family_landing.jsp&fp=/products/mpumcu/m16c_family/; ComponentLink2Description: Datasheet; ComponentLink2URL: http://documentation.renesas.com/eng/products/mpumcu/rej09b0037_32c85hm.pdf; ComponentLink3Description: Packaging Specification; ComponentLink3URL: http://sg.renesas.com/media/products/common_info/package/pdf/ic/code/plqp0144ka_a.pdf
footprint PLQP0144KA-A_N (Shrink QFP, 144-Leads, Body 20x20mm, Pitch 0.5mm, IPC Medium Density)
footprint PLQP0144KA-A_L (Shrink QFP, 144-Leads, Body 20x20mm, Pitch 0.5mm, IPC High Density)
footprint PLQP0144KA-A_M (Shrink QFP, 144-Leads, Body 20x20mm, Pitch 0.5mm, IPC Low Density)
part A pins: 1 P9_6 / TxD4 / SDA4 / SRxD4 / CAN1OUT / ANEX1 (io), 2 P9_5 / CLK4 / CAN1IN / ~{CAN1WU} / ANEX0 (io), 3 P9_4 / TB4IN / ~{CTS}4 / ~{RTS}4 / ~{SS}4 / DA1 (io), 4 P9_3 / TB3IN / ~{CTS}3 / ~{RTS}3 / ~{SS}3 / DA0 (io), 5 P9_2 / TB2IN / TxD3 / SDA3 / SRxD3 (io), 6 P9_1 / TB1IN / RxD3 / SCL3 / STxD3 (io), 7 P9_0 / TB0IN / CLK3 (io), 8 P14_6 (io), 9 P14_5 (io), 10 P14_4 (io), 11 P14_3 / INPC1_7 / OUTC1_7 (io), 12 P14_2 / INPC1_6 / OUTC1_6 (io), 13 P14_1 / INPC1_5 / OUTC1_5 (io), 14 P14_0 / INPC1_4 / OUTC1_4 (io), 15 BYTE (in), 16 CNVSS (in), 17 P8_7 / XCIN (io), 18 P8_6 / XCOUT (io), 19 ~{RESET} (in), 20 XOUT (out), 22 XIN (in), 24 P8_5 / ~{NNI} (io), 25 P8_4 / ~{INT}2 (io), 26 P8_3 / ~{INT}1 / CAN0IN / CAN1IN (io), 27 P8_2 / ~{INT}0 / CAN0OUT / CAN1OUT (io), 28 P8_1 / TA4IN / ~{U} / INPC1_5 / OUTC1_5 (io), 29 P8_0 / TA4OUT / U / ISRxD0 (io), 30 P7_7 / TA3IN / CAN0IN / INPC1_4 / OUTC1_4 / ISCLK0 (io), 31 P7_6 / TA3OUT / CAN0OUT / INPC1_3 / OUTC1_3 / ISTxD0 (io), 32 P7_5 / TA2IN / ~{W} / INPC1_2 / OUTC1_2 / ISRxD1 / BE1IN (io), 33 P7_4 / TA2OUT / W / INPC1_1 / OUTC1_1 / ISCLK1 (io), 34 P7_3 / TA1IN / ~{V} / ~{CTS}2 / ~{RTS}2 / ~{SS}2 / INPC1_0 / OUTC1_0 / ISTxD1 / BE1OUT (io), 35 P7_2 / TA1OUT / V / CLK2 (io), 36 P7_1 / TB5IN / TA0IN / RxD2 / SCL2 / STxD2 / INPC1_7 / OUTC1_7 (io), 37 P7_0 / TA0OUT / TxD2 / SDA2 / SRxD2 / INPC1_6 / OUTC1_6 (io), 38 P6_7 / TxD1 / SDA1 / SRxD1 (io), 40 P6_6 / RxD1 / SCL1 / STxD1 (io), 42 P6_5 / CLK1 (io), 43 P6_4 / ~{CTS}1 / ~{RTS}1 / ~{SS}1 (io), 44 P6_3 / TxD0 / SDA0 / SRxD0 (io), 45 P6_2 / RxD0 / SCL0 / STxD0 (io), 46 P6_1 / CLK0 (io), 47 P6_0 / ~{CTS}0 / ~{RTS}0 / ~{SS}0 (io), 48 P13_7 (io), 49 P13_6 (io), 50 P13_5 (io), 51 P13_4 (io), 52 P5_7 / ~{RDY} (io), 53 P5_6 / ALE (io), 54 P5_5 / ~{HOLD} (io), 55 P5_4 / ~{HLDA} / ALE (io), 56 P13_3 (io), 58 P13_2 (io), 60 P13_1 (io), 61 P13_0 (io), 62 P5_3 / CLKOUT / BCLK / ALE (io), 63 P5_2 / ~{RD} (io), 64 P5_1 / ~{WRH} / ~{BHE} (io), 65 P5_0 / ~{WRL} / ~{WR} (io), 66 P12_7 (io), 67 P12_6 (io), 68 P12_5 (io), 69 P4_7 / ~{CS}0 / ~{A}23 (io), 70 P4_6 / ~{CS}1 / A22 (io), 71 P4_5 / ~{CS}2 / A21 (io), 72 P4_4 / ~{CS}3 / A20 (io), 73 P4_3 / A19 (io), 75 P4_2 / A18 (io), 77 P4_1 / A17 (io), 78 P4_0 / A16 (io), 79 P3_7 / A15, [A15 / D15] (io), 80 P3_6 / A14, [A14 / D14] (io), 81 P3_5 / A13, [A13 / D13] (io), 82 P3_4 / A12, [A12 / D12] (io), 83 P3_3 / A11, [A11 / D11] (io), 84 P3_2 / A10, [A10 / D10] (io), 85 P3_1 / A9, [A9 / D9] (io), 86 P12_4 (io), 87 P12_3 (io), 88 P12_2 (io), 89 P12_1 (io), 90 P12_0 (io), 92 P3_0 / A8, [A8 / D8] (io), 94 P2_7 / AN2_7 / A7, [A7 / D7] (io), 95 P2_6 / AN2_6 / A6, [A6 / D6] (io), 96 P2_5 / AN2_5 / A5, [A5 / D5] (io), 97 P2_4 / AN2_4 / A4, [A4 / D4] (io), 98 P2_3 / AN2_3 / A3, [A3 / D3] (io), 99 P2_2 / AN2_2 / A2, [A2 / D2] (io), 100 P2_1 / AN2_1 / A1, [A1 / D1] (io), 101 P2_0 / AN2_0 / A0, [A0 / D0] (io), 102 P1_7 / ~{INT}5 / D15 (io), 103 P1_6 / ~{INT}4 / D14 (io), 104 P1_5 / ~{INT}3 / D13 (io), 105 P1_4 / D12 (io), 106 P1_3 / D11 (io), 107 P1_2 / D10 (io), 108 P1_1 / D9 (io), 109 P1_0 / D8 (io), 110 P0_7 / AN0_7 / D7 (io), 111 P0_6 / AN0_6 / D6 (io), 112 P0_5 / AN0_5 / D5 (io), 113 P0_4 / AN0_4 / D4 (io), 114 P11_4 (io), 115 P11_3 / INPC1_3 / OUTC1_3 (io), 116 P11_2 / INPC1_2 / OUTC1_2 / ISRxD1 / BE1IN (io), 117 P11_1 / INPC1_1 / OUTC1_1 / ISCLK1 (io), 118 P11_0 / INPC1_0 / OUTC1_0 / ISTxD1 / BE1OUT (io), 119 P0_3 / AN0_3 / D3 (io), 120 P0_2 / AN0_2 / D2 (io), 121 P0_1 / AN0_1 / D1 (io), 122 P0_0 / AN0_0 / D0 (io), 123 P15_7 / AN15_7 (io), 124 P15_6 / AN15_6 (io), 125 P15_5 / AN15_5 (io), 126 P15_4 / AN15_4 (io), 127 P15_3 / AN15_3 (io), 128 P15_2 / ISRxD0 / AN15_2 (io), 129 P15_1 / ISCLK0 / AN15_1 (io), 131 P15_0 / ISTxD0 / AN15_0 (io), 133 P10_7 / ~{KI}3 / AN_7 (io), 134 P10_6 / ~{KI}2 / AN_6 (io), 135 P10_5 / ~{KI}1 / AN_5 (io), 136 P10_4 / ~{KI}0 / AN_4 (io), 137 P10_3 / AN_3 (io), 138 P10_2 / AN_2 (io), 139 P10_1 / AN_1 (io), 141 P10_0 / AN_0 (io), 142 VREF (in), 144 P9_7 / RxD4 / SCL4 / STxD4 / ~{ADTRG} (io)
part B pins: 21 VSS (power), 23 VCC1 (power), 39 VCC1 (power), 41 VSS (power), 57 VSS (power), 59 VCC2 (power), 74 VCC2 (power), 76 VSS (power), 91 VCC2 (power), 93 VSS (power), 130 VSS (power), 132 VCC1 (power), 140 AVSS (power), 143 AVCC (power)

## M30855FJTGP
designator U?
Flash Memory M32C/80 Series, 85 Group MCU, 512K + 4K ROM, 24K RAM, 144-pin LQFP, Version T; Note: Bus control pins in M32C/85T cannot be used.; Published: 28-Aug-2009; DatasheetVersion: Rev.1.03, Jul-2005; PackageVersion: Sep-2005; PackageReference: PLQP0144KA-A; Publisher: Altium Limited; PackageDescription: 144-Pin Plastic Low Profile QFP, 20 x 20 x 1.4 mm Body, 0.5 mm Pitch; Code_JEITA: P-LQFP144-20x20-0.50; Code_IPC: SQFP50P2200X2200-144; ComponentLink1Description: Manufacturer Link; ComponentLink1URL: http://sg.renesas.com/fmwk.jsp?cnt=m16c_family_landing.jsp&fp=/products/mpumcu/m16c_family/; ComponentLink2Description: Datasheet; ComponentLink2URL: http://documentation.renesas.com/eng/products/mpumcu/rej09b0037_32c85hm.pdf; ComponentLink3Description: Packaging Specification; ComponentLink3URL: http://sg.renesas.com/media/products/common_info/package/pdf/ic/code/plqp0144ka_a.pdf
footprint PLQP0144KA-A_N (Shrink QFP, 144-Leads, Body 20x20mm, Pitch 0.5mm, IPC Medium Density)
footprint PLQP0144KA-A_L (Shrink QFP, 144-Leads, Body 20x20mm, Pitch 0.5mm, IPC High Density)
footprint PLQP0144KA-A_M (Shrink QFP, 144-Leads, Body 20x20mm, Pitch 0.5mm, IPC Low Density)
part A pins: 1 P9_6 / TxD4 / SDA4 / SRxD4 / CAN1OUT / ANEX1 (io), 2 P9_5 / CLK4 / CAN1IN / ~{CAN1WU} / ANEX0 (io), 3 P9_4 / TB4IN / ~{CTS}4 / ~{RTS}4 / ~{SS}4 / DA1 (io), 4 P9_3 / TB3IN / ~{CTS}3 / ~{RTS}3 / ~{SS}3 / DA0 (io), 5 P9_2 / TB2IN / TxD3 / SDA3 / SRxD3 (io), 6 P9_1 / TB1IN / RxD3 / SCL3 / STxD3 (io), 7 P9_0 / TB0IN / CLK3 (io), 8 P14_6 (io), 9 P14_5 (io), 10 P14_4 (io), 11 P14_3 / INPC1_7 / OUTC1_7 (io), 12 P14_2 / INPC1_6 / OUTC1_6 (io), 13 P14_1 / INPC1_5 / OUTC1_5 (io), 14 P14_0 / INPC1_4 / OUTC1_4 (io), 15 BYTE (in), 16 CNVSS (in), 17 P8_7 / XCIN (io), 18 P8_6 / XCOUT (io), 19 ~{RESET} (in), 20 XOUT (out), 22 XIN (in), 24 P8_5 / ~{NNI} (io), 25 P8_4 / ~{INT}2 (io), 26 P8_3 / ~{INT}1 / CAN0IN / CAN1IN (io), 27 P8_2 / ~{INT}0 / CAN0OUT / CAN1OUT (io), 28 P8_1 / TA4IN / ~{U} / INPC1_5 / OUTC1_5 (io), 29 P8_0 / TA4OUT / U / ISRxD0 (io), 30 P7_7 / TA3IN / CAN0IN / INPC1_4 / OUTC1_4 / ISCLK0 (io), 31 P7_6 / TA3OUT / CAN0OUT / INPC1_3 / OUTC1_3 / ISTxD0 (io), 32 P7_5 / TA2IN / ~{W} / INPC1_2 / OUTC1_2 / ISRxD1 / BE1IN (io), 33 P7_4 / TA2OUT / W / INPC1_1 / OUTC1_1 / ISCLK1 (io), 34 P7_3 / TA1IN / ~{V} / ~{CTS}2 / ~{RTS}2 / ~{SS}2 / INPC1_0 / OUTC1_0 / ISTxD1 / BE1OUT (io), 35 P7_2 / TA1OUT / V / CLK2 (io), 36 P7_1 / TB5IN / TA0IN / RxD2 / SCL2 / STxD2 / INPC1_7 / OUTC1_7 (io), 37 P7_0 / TA0OUT / TxD2 / SDA2 / SRxD2 / INPC1_6 / OUTC1_6 (io), 38 P6_7 / TxD1 / SDA1 / SRxD1 (io), 40 P6_6 / RxD1 / SCL1 / STxD1 (io), 42 P6_5 / CLK1 (io), 43 P6_4 / ~{CTS}1 / ~{RTS}1 / ~{SS}1 (io), 44 P6_3 / TxD0 / SDA0 / SRxD0 (io), 45 P6_2 / RxD0 / SCL0 / STxD0 (io), 46 P6_1 / CLK0 (io), 47 P6_0 / ~{CTS}0 / ~{RTS}0 / ~{SS}0 (io), 48 P13_7 (io), 49 P13_6 (io), 50 P13_5 (io), 51 P13_4 (io), 52 P5_7 (io), 53 P5_6 (io), 54 P5_5 (io), 55 P5_4 (io), 56 P13_3 (io), 58 P13_2 (io), 60 P13_1 (io), 61 P13_0 (io), 62 P5_3 (io), 63 P5_2 (io), 64 P5_1 (io), 65 P5_0 (io), 66 P12_7 (io), 67 P12_6 (io), 68 P12_5 (io), 69 P4_7 (io), 70 P4_6 (io), 71 P4_5 (io), 72 P4_4 (io), 73 P4_3 (io), 75 P4_2 (io), 77 P4_1 (io), 78 P4_0 (io), 79 P3_7 (io), 80 P3_6 (io), 81 P3_5 (io), 82 P3_4 (io), 83 P3_3 (io), 84 P3_2 (io), 85 P3_1 (io), 86 P12_4 (io), 87 P12_3 (io), 88 P12_2 (io), 89 P12_1 (io), 90 P12_0 (io), 92 P3_0 (io), 94 P2_7 / AN2_7 (io), 95 P2_6 / AN2_6 (io), 96 P2_5 / AN2_5 (io), 97 P2_4 / AN2_4 (io), 98 P2_3 / AN2_3 (io), 99 P2_2 / AN2_2 (io), 100 P2_1 / AN2_1 (io), 101 P2_0 / AN2_0 (io), 102 P1_7 / ~{INT}5 (io), 103 P1_6 / ~{INT}4 (io), 104 P1_5 / ~{INT}3 (io), 105 P1_4 (io), 106 P1_3 (io), 107 P1_2 (io), 108 P1_1 (io), 109 P1_0 (io), 110 P0_7 / AN0_7 (io), 111 P0_6 / AN0_6 (io), 112 P0_5 / AN0_5 (io), 113 P0_4 / AN0_4 (io), 114 P11_4 (io), 115 P11_3 / INPC1_3 / OUTC1_3 (io), 116 P11_2 / INPC1_2 / OUTC1_2 / ISRxD1 / BE1IN (io), 117 P11_1 / INPC1_1 / OUTC1_1 / ISCLK1 (io), 118 P11_0 / INPC1_0 / OUTC1_0 / ISTxD1 / BE1OUT (io), 119 P0_3 / AN0_3 (io), 120 P0_2 / AN0_2 (io), 121 P0_1 / AN0_1 (io), 122 P0_0 / AN0_0 (io), 123 P15_7 / AN15_7 (io), 124 P15_6 / AN15_6 (io), 125 P15_5 / AN15_5 (io), 126 P15_4 / AN15_4 (io), 127 P15_3 / AN15_3 (io), 128 P15_2 / ISRxD0 / AN15_2 (io), 129 P15_1 / ISCLK0 / AN15_1 (io), 131 P15_0 / ISTxD0 / AN15_0 (io), 133 P10_7 / ~{KI}3 / AN_7 (io), 134 P10_6 / ~{KI}2 / AN_6 (io), 135 P10_5 / ~{KI}1 / AN_5 (io), 136 P10_4 / ~{KI}0 / AN_4 (io), 137 P10_3 / AN_3 (io), 138 P10_2 / AN_2 (io), 139 P10_1 / AN_1 (io), 141 P10_0 / AN_0 (io), 142 VREF (in), 144 P9_7 / RxD4 / SCL4 / STxD4 / ~{ADTRG} (io)
part B pins: 21 VSS (power), 23 VCC1 (power), 39 VCC1 (power), 41 VSS (power), 57 VSS (power), 59 VCC2 (power), 74 VCC2 (power), 76 VSS (power), 91 VCC2 (power), 93 VSS (power), 130 VSS (power), 132 VCC1 (power), 140 AVSS (power), 143 AVCC (power)

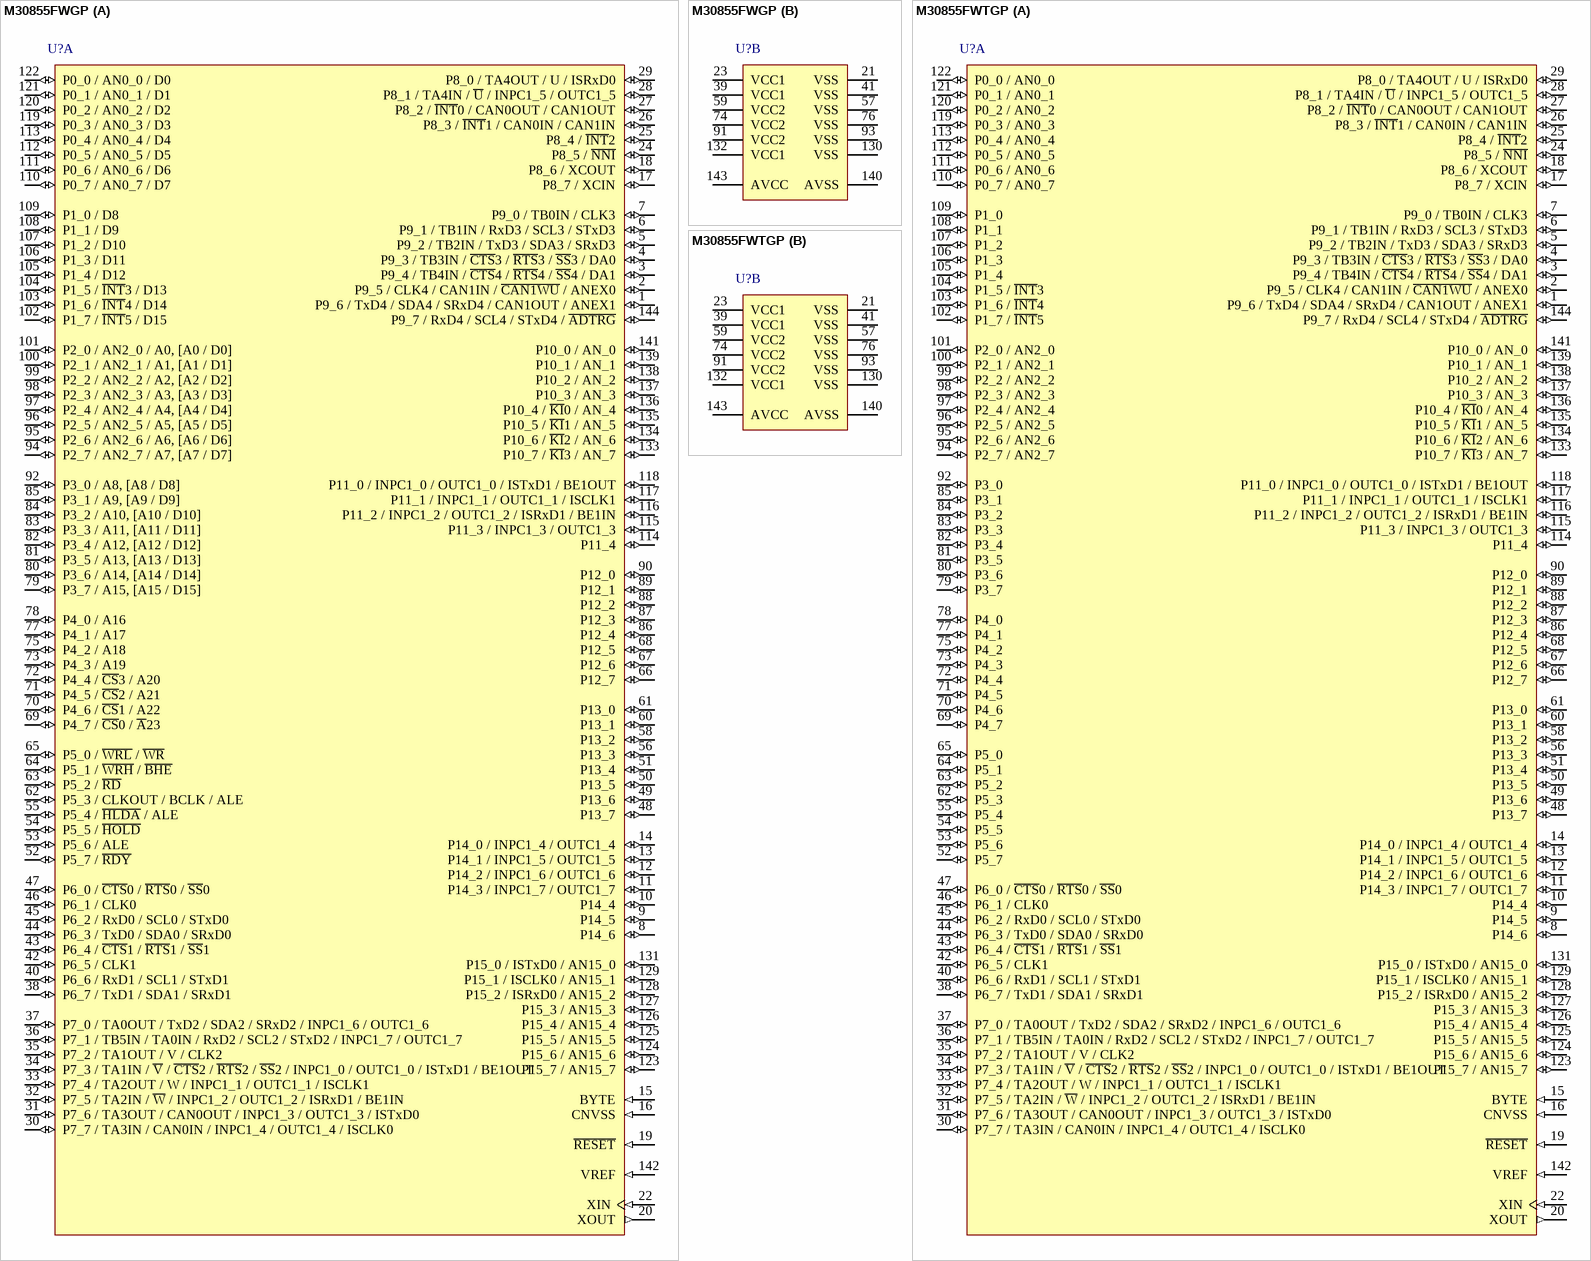
[diagram p32: symbols M30855FWGP to M30855FWTGP]

## M30855FWGP
designator U?
Flash Memory M32C/80 Series, 85 Group MCU, 320K + 4K ROM, 24K RAM, 144-pin LQFP; Published: 28-Aug-2009; DatasheetVersion: Rev.1.03, Jul-2005; PackageVersion: Sep-2005; PackageReference: PLQP0144KA-A; Publisher: Altium Limited; PackageDescription: 144-Pin Plastic Low Profile QFP, 20 x 20 x 1.4 mm Body, 0.5 mm Pitch; Code_JEITA: P-LQFP144-20x20-0.50; Code_IPC: SQFP50P2200X2200-144; ComponentLink1Description: Manufacturer Link; ComponentLink1URL: http://sg.renesas.com/fmwk.jsp?cnt=m16c_family_landing.jsp&fp=/products/mpumcu/m16c_family/; ComponentLink2Description: Datasheet; ComponentLink2URL: http://documentation.renesas.com/eng/products/mpumcu/rej09b0037_32c85hm.pdf; ComponentLink3Description: Packaging Specification; ComponentLink3URL: http://sg.renesas.com/media/products/common_info/package/pdf/ic/code/plqp0144ka_a.pdf
footprint PLQP0144KA-A_N (Shrink QFP, 144-Leads, Body 20x20mm, Pitch 0.5mm, IPC Medium Density)
footprint PLQP0144KA-A_L (Shrink QFP, 144-Leads, Body 20x20mm, Pitch 0.5mm, IPC High Density)
footprint PLQP0144KA-A_M (Shrink QFP, 144-Leads, Body 20x20mm, Pitch 0.5mm, IPC Low Density)
part A pins: 1 P9_6 / TxD4 / SDA4 / SRxD4 / CAN1OUT / ANEX1 (io), 2 P9_5 / CLK4 / CAN1IN / ~{CAN1WU} / ANEX0 (io), 3 P9_4 / TB4IN / ~{CTS}4 / ~{RTS}4 / ~{SS}4 / DA1 (io), 4 P9_3 / TB3IN / ~{CTS}3 / ~{RTS}3 / ~{SS}3 / DA0 (io), 5 P9_2 / TB2IN / TxD3 / SDA3 / SRxD3 (io), 6 P9_1 / TB1IN / RxD3 / SCL3 / STxD3 (io), 7 P9_0 / TB0IN / CLK3 (io), 8 P14_6 (io), 9 P14_5 (io), 10 P14_4 (io), 11 P14_3 / INPC1_7 / OUTC1_7 (io), 12 P14_2 / INPC1_6 / OUTC1_6 (io), 13 P14_1 / INPC1_5 / OUTC1_5 (io), 14 P14_0 / INPC1_4 / OUTC1_4 (io), 15 BYTE (in), 16 CNVSS (in), 17 P8_7 / XCIN (io), 18 P8_6 / XCOUT (io), 19 ~{RESET} (in), 20 XOUT (out), 22 XIN (in), 24 P8_5 / ~{NNI} (io), 25 P8_4 / ~{INT}2 (io), 26 P8_3 / ~{INT}1 / CAN0IN / CAN1IN (io), 27 P8_2 / ~{INT}0 / CAN0OUT / CAN1OUT (io), 28 P8_1 / TA4IN / ~{U} / INPC1_5 / OUTC1_5 (io), 29 P8_0 / TA4OUT / U / ISRxD0 (io), 30 P7_7 / TA3IN / CAN0IN / INPC1_4 / OUTC1_4 / ISCLK0 (io), 31 P7_6 / TA3OUT / CAN0OUT / INPC1_3 / OUTC1_3 / ISTxD0 (io), 32 P7_5 / TA2IN / ~{W} / INPC1_2 / OUTC1_2 / ISRxD1 / BE1IN (io), 33 P7_4 / TA2OUT / W / INPC1_1 / OUTC1_1 / ISCLK1 (io), 34 P7_3 / TA1IN / ~{V} / ~{CTS}2 / ~{RTS}2 / ~{SS}2 / INPC1_0 / OUTC1_0 / ISTxD1 / BE1OUT (io), 35 P7_2 / TA1OUT / V / CLK2 (io), 36 P7_1 / TB5IN / TA0IN / RxD2 / SCL2 / STxD2 / INPC1_7 / OUTC1_7 (io), 37 P7_0 / TA0OUT / TxD2 / SDA2 / SRxD2 / INPC1_6 / OUTC1_6 (io), 38 P6_7 / TxD1 / SDA1 / SRxD1 (io), 40 P6_6 / RxD1 / SCL1 / STxD1 (io), 42 P6_5 / CLK1 (io), 43 P6_4 / ~{CTS}1 / ~{RTS}1 / ~{SS}1 (io), 44 P6_3 / TxD0 / SDA0 / SRxD0 (io), 45 P6_2 / RxD0 / SCL0 / STxD0 (io), 46 P6_1 / CLK0 (io), 47 P6_0 / ~{CTS}0 / ~{RTS}0 / ~{SS}0 (io), 48 P13_7 (io), 49 P13_6 (io), 50 P13_5 (io), 51 P13_4 (io), 52 P5_7 / ~{RDY} (io), 53 P5_6 / ALE (io), 54 P5_5 / ~{HOLD} (io), 55 P5_4 / ~{HLDA} / ALE (io), 56 P13_3 (io), 58 P13_2 (io), 60 P13_1 (io), 61 P13_0 (io), 62 P5_3 / CLKOUT / BCLK / ALE (io), 63 P5_2 / ~{RD} (io), 64 P5_1 / ~{WRH} / ~{BHE} (io), 65 P5_0 / ~{WRL} / ~{WR} (io), 66 P12_7 (io), 67 P12_6 (io), 68 P12_5 (io), 69 P4_7 / ~{CS}0 / ~{A}23 (io), 70 P4_6 / ~{CS}1 / A22 (io), 71 P4_5 / ~{CS}2 / A21 (io), 72 P4_4 / ~{CS}3 / A20 (io), 73 P4_3 / A19 (io), 75 P4_2 / A18 (io), 77 P4_1 / A17 (io), 78 P4_0 / A16 (io), 79 P3_7 / A15, [A15 / D15] (io), 80 P3_6 / A14, [A14 / D14] (io), 81 P3_5 / A13, [A13 / D13] (io), 82 P3_4 / A12, [A12 / D12] (io), 83 P3_3 / A11, [A11 / D11] (io), 84 P3_2 / A10, [A10 / D10] (io), 85 P3_1 / A9, [A9 / D9] (io), 86 P12_4 (io), 87 P12_3 (io), 88 P12_2 (io), 89 P12_1 (io), 90 P12_0 (io), 92 P3_0 / A8, [A8 / D8] (io), 94 P2_7 / AN2_7 / A7, [A7 / D7] (io), 95 P2_6 / AN2_6 / A6, [A6 / D6] (io), 96 P2_5 / AN2_5 / A5, [A5 / D5] (io), 97 P2_4 / AN2_4 / A4, [A4 / D4] (io), 98 P2_3 / AN2_3 / A3, [A3 / D3] (io), 99 P2_2 / AN2_2 / A2, [A2 / D2] (io), 100 P2_1 / AN2_1 / A1, [A1 / D1] (io), 101 P2_0 / AN2_0 / A0, [A0 / D0] (io), 102 P1_7 / ~{INT}5 / D15 (io), 103 P1_6 / ~{INT}4 / D14 (io), 104 P1_5 / ~{INT}3 / D13 (io), 105 P1_4 / D12 (io), 106 P1_3 / D11 (io), 107 P1_2 / D10 (io), 108 P1_1 / D9 (io), 109 P1_0 / D8 (io), 110 P0_7 / AN0_7 / D7 (io), 111 P0_6 / AN0_6 / D6 (io), 112 P0_5 / AN0_5 / D5 (io), 113 P0_4 / AN0_4 / D4 (io), 114 P11_4 (io), 115 P11_3 / INPC1_3 / OUTC1_3 (io), 116 P11_2 / INPC1_2 / OUTC1_2 / ISRxD1 / BE1IN (io), 117 P11_1 / INPC1_1 / OUTC1_1 / ISCLK1 (io), 118 P11_0 / INPC1_0 / OUTC1_0 / ISTxD1 / BE1OUT (io), 119 P0_3 / AN0_3 / D3 (io), 120 P0_2 / AN0_2 / D2 (io), 121 P0_1 / AN0_1 / D1 (io), 122 P0_0 / AN0_0 / D0 (io), 123 P15_7 / AN15_7 (io), 124 P15_6 / AN15_6 (io), 125 P15_5 / AN15_5 (io), 126 P15_4 / AN15_4 (io), 127 P15_3 / AN15_3 (io), 128 P15_2 / ISRxD0 / AN15_2 (io), 129 P15_1 / ISCLK0 / AN15_1 (io), 131 P15_0 / ISTxD0 / AN15_0 (io), 133 P10_7 / ~{KI}3 / AN_7 (io), 134 P10_6 / ~{KI}2 / AN_6 (io), 135 P10_5 / ~{KI}1 / AN_5 (io), 136 P10_4 / ~{KI}0 / AN_4 (io), 137 P10_3 / AN_3 (io), 138 P10_2 / AN_2 (io), 139 P10_1 / AN_1 (io), 141 P10_0 / AN_0 (io), 142 VREF (in), 144 P9_7 / RxD4 / SCL4 / STxD4 / ~{ADTRG} (io)
part B pins: 21 VSS (power), 23 VCC1 (power), 39 VCC1 (power), 41 VSS (power), 57 VSS (power), 59 VCC2 (power), 74 VCC2 (power), 76 VSS (power), 91 VCC2 (power), 93 VSS (power), 130 VSS (power), 132 VCC1 (power), 140 AVSS (power), 143 AVCC (power)

## M30855FWTGP
designator U?
Flash Memory M32C/80 Series, 85 Group MCU, 320K + 4K ROM, 24K RAM, 144-pin LQFP, Version T; Note: Bus control pins in M32C/85T cannot be used.; Published: 28-Aug-2009; DatasheetVersion: Rev.1.03, Jul-2005; PackageVersion: Sep-2005; PackageReference: PLQP0144KA-A; Publisher: Altium Limited; PackageDescription: 144-Pin Plastic Low Profile QFP, 20 x 20 x 1.4 mm Body, 0.5 mm Pitch; Code_JEITA: P-LQFP144-20x20-0.50; Code_IPC: SQFP50P2200X2200-144; ComponentLink1Description: Manufacturer Link; ComponentLink1URL: http://sg.renesas.com/fmwk.jsp?cnt=m16c_family_landing.jsp&fp=/products/mpumcu/m16c_family/; ComponentLink2Description: Datasheet; ComponentLink2URL: http://documentation.renesas.com/eng/products/mpumcu/rej09b0037_32c85hm.pdf; ComponentLink3Description: Packaging Specification; ComponentLink3URL: http://sg.renesas.com/media/products/common_info/package/pdf/ic/code/plqp0144ka_a.pdf
footprint PLQP0144KA-A_N (Shrink QFP, 144-Leads, Body 20x20mm, Pitch 0.5mm, IPC Medium Density)
footprint PLQP0144KA-A_L (Shrink QFP, 144-Leads, Body 20x20mm, Pitch 0.5mm, IPC High Density)
footprint PLQP0144KA-A_M (Shrink QFP, 144-Leads, Body 20x20mm, Pitch 0.5mm, IPC Low Density)
part A pins: 1 P9_6 / TxD4 / SDA4 / SRxD4 / CAN1OUT / ANEX1 (io), 2 P9_5 / CLK4 / CAN1IN / ~{CAN1WU} / ANEX0 (io), 3 P9_4 / TB4IN / ~{CTS}4 / ~{RTS}4 / ~{SS}4 / DA1 (io), 4 P9_3 / TB3IN / ~{CTS}3 / ~{RTS}3 / ~{SS}3 / DA0 (io), 5 P9_2 / TB2IN / TxD3 / SDA3 / SRxD3 (io), 6 P9_1 / TB1IN / RxD3 / SCL3 / STxD3 (io), 7 P9_0 / TB0IN / CLK3 (io), 8 P14_6 (io), 9 P14_5 (io), 10 P14_4 (io), 11 P14_3 / INPC1_7 / OUTC1_7 (io), 12 P14_2 / INPC1_6 / OUTC1_6 (io), 13 P14_1 / INPC1_5 / OUTC1_5 (io), 14 P14_0 / INPC1_4 / OUTC1_4 (io), 15 BYTE (in), 16 CNVSS (in), 17 P8_7 / XCIN (io), 18 P8_6 / XCOUT (io), 19 ~{RESET} (in), 20 XOUT (out), 22 XIN (in), 24 P8_5 / ~{NNI} (io), 25 P8_4 / ~{INT}2 (io), 26 P8_3 / ~{INT}1 / CAN0IN / CAN1IN (io), 27 P8_2 / ~{INT}0 / CAN0OUT / CAN1OUT (io), 28 P8_1 / TA4IN / ~{U} / INPC1_5 / OUTC1_5 (io), 29 P8_0 / TA4OUT / U / ISRxD0 (io), 30 P7_7 / TA3IN / CAN0IN / INPC1_4 / OUTC1_4 / ISCLK0 (io), 31 P7_6 / TA3OUT / CAN0OUT / INPC1_3 / OUTC1_3 / ISTxD0 (io), 32 P7_5 / TA2IN / ~{W} / INPC1_2 / OUTC1_2 / ISRxD1 / BE1IN (io), 33 P7_4 / TA2OUT / W / INPC1_1 / OUTC1_1 / ISCLK1 (io), 34 P7_3 / TA1IN / ~{V} / ~{CTS}2 / ~{RTS}2 / ~{SS}2 / INPC1_0 / OUTC1_0 / ISTxD1 / BE1OUT (io), 35 P7_2 / TA1OUT / V / CLK2 (io), 36 P7_1 / TB5IN / TA0IN / RxD2 / SCL2 / STxD2 / INPC1_7 / OUTC1_7 (io), 37 P7_0 / TA0OUT / TxD2 / SDA2 / SRxD2 / INPC1_6 / OUTC1_6 (io), 38 P6_7 / TxD1 / SDA1 / SRxD1 (io), 40 P6_6 / RxD1 / SCL1 / STxD1 (io), 42 P6_5 / CLK1 (io), 43 P6_4 / ~{CTS}1 / ~{RTS}1 / ~{SS}1 (io), 44 P6_3 / TxD0 / SDA0 / SRxD0 (io), 45 P6_2 / RxD0 / SCL0 / STxD0 (io), 46 P6_1 / CLK0 (io), 47 P6_0 / ~{CTS}0 / ~{RTS}0 / ~{SS}0 (io), 48 P13_7 (io), 49 P13_6 (io), 50 P13_5 (io), 51 P13_4 (io), 52 P5_7 (io), 53 P5_6 (io), 54 P5_5 (io), 55 P5_4 (io), 56 P13_3 (io), 58 P13_2 (io), 60 P13_1 (io), 61 P13_0 (io), 62 P5_3 (io), 63 P5_2 (io), 64 P5_1 (io), 65 P5_0 (io), 66 P12_7 (io), 67 P12_6 (io), 68 P12_5 (io), 69 P4_7 (io), 70 P4_6 (io), 71 P4_5 (io), 72 P4_4 (io), 73 P4_3 (io), 75 P4_2 (io), 77 P4_1 (io), 78 P4_0 (io), 79 P3_7 (io), 80 P3_6 (io), 81 P3_5 (io), 82 P3_4 (io), 83 P3_3 (io), 84 P3_2 (io), 85 P3_1 (io), 86 P12_4 (io), 87 P12_3 (io), 88 P12_2 (io), 89 P12_1 (io), 90 P12_0 (io), 92 P3_0 (io), 94 P2_7 / AN2_7 (io), 95 P2_6 / AN2_6 (io), 96 P2_5 / AN2_5 (io), 97 P2_4 / AN2_4 (io), 98 P2_3 / AN2_3 (io), 99 P2_2 / AN2_2 (io), 100 P2_1 / AN2_1 (io), 101 P2_0 / AN2_0 (io), 102 P1_7 / ~{INT}5 (io), 103 P1_6 / ~{INT}4 (io), 104 P1_5 / ~{INT}3 (io), 105 P1_4 (io), 106 P1_3 (io), 107 P1_2 (io), 108 P1_1 (io), 109 P1_0 (io), 110 P0_7 / AN0_7 (io), 111 P0_6 / AN0_6 (io), 112 P0_5 / AN0_5 (io), 113 P0_4 / AN0_4 (io), 114 P11_4 (io), 115 P11_3 / INPC1_3 / OUTC1_3 (io), 116 P11_2 / INPC1_2 / OUTC1_2 / ISRxD1 / BE1IN (io), 117 P11_1 / INPC1_1 / OUTC1_1 / ISCLK1 (io), 118 P11_0 / INPC1_0 / OUTC1_0 / ISTxD1 / BE1OUT (io), 119 P0_3 / AN0_3 (io), 120 P0_2 / AN0_2 (io), 121 P0_1 / AN0_1 (io), 122 P0_0 / AN0_0 (io), 123 P15_7 / AN15_7 (io), 124 P15_6 / AN15_6 (io), 125 P15_5 / AN15_5 (io), 126 P15_4 / AN15_4 (io), 127 P15_3 / AN15_3 (io), 128 P15_2 / ISRxD0 / AN15_2 (io), 129 P15_1 / ISCLK0 / AN15_1 (io), 131 P15_0 / ISTxD0 / AN15_0 (io), 133 P10_7 / ~{KI}3 / AN_7 (io), 134 P10_6 / ~{KI}2 / AN_6 (io), 135 P10_5 / ~{KI}1 / AN_5 (io), 136 P10_4 / ~{KI}0 / AN_4 (io), 137 P10_3 / AN_3 (io), 138 P10_2 / AN_2 (io), 139 P10_1 / AN_1 (io), 141 P10_0 / AN_0 (io), 142 VREF (in), 144 P9_7 / RxD4 / SCL4 / STxD4 / ~{ADTRG} (io)
part B pins: 21 VSS (power), 23 VCC1 (power), 39 VCC1 (power), 41 VSS (power), 57 VSS (power), 59 VCC2 (power), 74 VCC2 (power), 76 VSS (power), 91 VCC2 (power), 93 VSS (power), 130 VSS (power), 132 VCC1 (power), 140 AVSS (power), 143 AVCC (power)

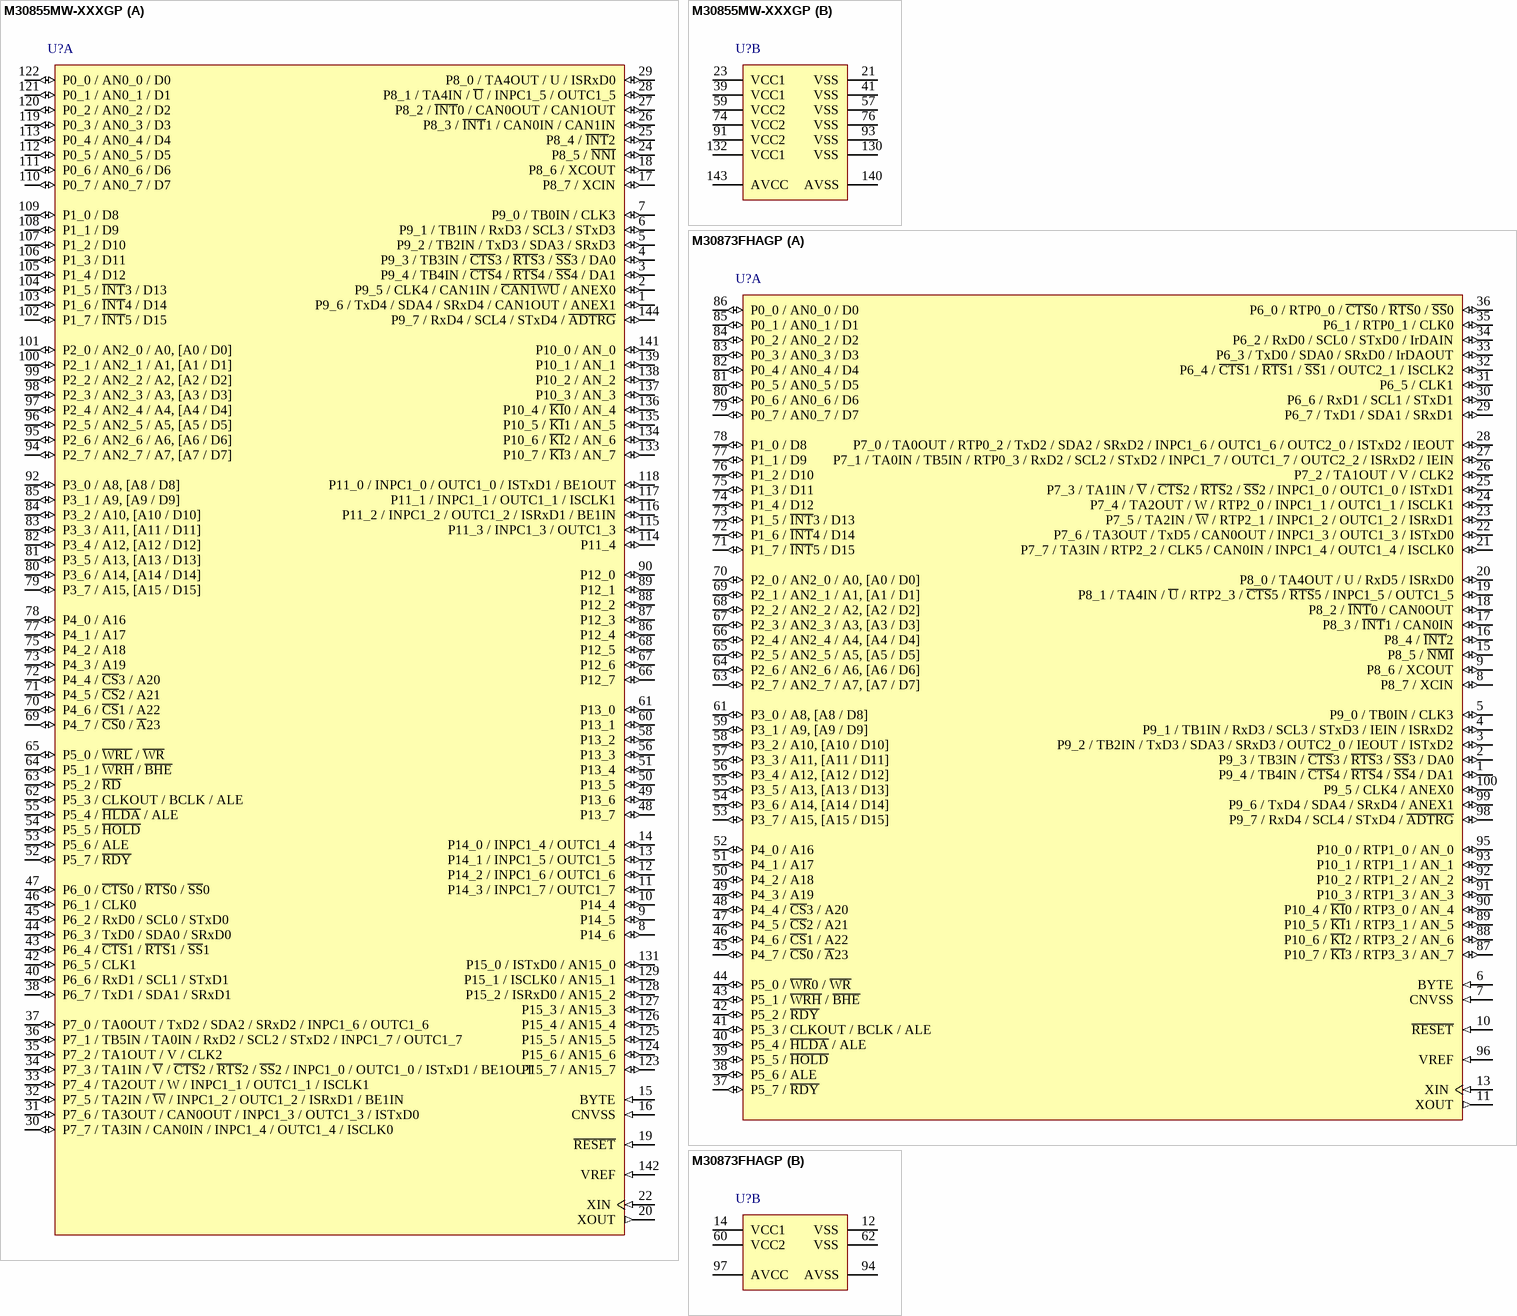
[diagram p33: symbols M30855MW-XXXGP to M30873FHAGP]

## M30855MW-XXXGP
designator U?
Mask ROM M32C/80 Series, 85 Group MCU, 320K ROM, 24K RAM, 144-pin LQFP; Published: 28-Aug-2009; DatasheetVersion: Rev.1.03, Jul-2005; PackageVersion: Sep-2005; PackageReference: PLQP0144KA-A; Publisher: Altium Limited; PackageDescription: 144-Pin Plastic Low Profile QFP, 20 x 20 x 1.4 mm Body, 0.5 mm Pitch; Code_JEITA: P-LQFP144-20x20-0.50; Code_IPC: SQFP50P2200X2200-144; ComponentLink1Description: Manufacturer Link; ComponentLink1URL: http://sg.renesas.com/fmwk.jsp?cnt=m16c_family_landing.jsp&fp=/products/mpumcu/m16c_family/; ComponentLink2Description: Datasheet; ComponentLink2URL: http://documentation.renesas.com/eng/products/mpumcu/rej09b0037_32c85hm.pdf; ComponentLink3Description: Packaging Specification; ComponentLink3URL: http://sg.renesas.com/media/products/common_info/package/pdf/ic/code/plqp0144ka_a.pdf
footprint PLQP0144KA-A_N (Shrink QFP, 144-Leads, Body 20x20mm, Pitch 0.5mm, IPC Medium Density)
footprint PLQP0144KA-A_L (Shrink QFP, 144-Leads, Body 20x20mm, Pitch 0.5mm, IPC High Density)
footprint PLQP0144KA-A_M (Shrink QFP, 144-Leads, Body 20x20mm, Pitch 0.5mm, IPC Low Density)
part A pins: 1 P9_6 / TxD4 / SDA4 / SRxD4 / CAN1OUT / ANEX1 (io), 2 P9_5 / CLK4 / CAN1IN / ~{CAN1WU} / ANEX0 (io), 3 P9_4 / TB4IN / ~{CTS}4 / ~{RTS}4 / ~{SS}4 / DA1 (io), 4 P9_3 / TB3IN / ~{CTS}3 / ~{RTS}3 / ~{SS}3 / DA0 (io), 5 P9_2 / TB2IN / TxD3 / SDA3 / SRxD3 (io), 6 P9_1 / TB1IN / RxD3 / SCL3 / STxD3 (io), 7 P9_0 / TB0IN / CLK3 (io), 8 P14_6 (io), 9 P14_5 (io), 10 P14_4 (io), 11 P14_3 / INPC1_7 / OUTC1_7 (io), 12 P14_2 / INPC1_6 / OUTC1_6 (io), 13 P14_1 / INPC1_5 / OUTC1_5 (io), 14 P14_0 / INPC1_4 / OUTC1_4 (io), 15 BYTE (in), 16 CNVSS (in), 17 P8_7 / XCIN (io), 18 P8_6 / XCOUT (io), 19 ~{RESET} (in), 20 XOUT (out), 22 XIN (in), 24 P8_5 / ~{NNI} (io), 25 P8_4 / ~{INT}2 (io), 26 P8_3 / ~{INT}1 / CAN0IN / CAN1IN (io), 27 P8_2 / ~{INT}0 / CAN0OUT / CAN1OUT (io), 28 P8_1 / TA4IN / ~{U} / INPC1_5 / OUTC1_5 (io), 29 P8_0 / TA4OUT / U / ISRxD0 (io), 30 P7_7 / TA3IN / CAN0IN / INPC1_4 / OUTC1_4 / ISCLK0 (io), 31 P7_6 / TA3OUT / CAN0OUT / INPC1_3 / OUTC1_3 / ISTxD0 (io), 32 P7_5 / TA2IN / ~{W} / INPC1_2 / OUTC1_2 / ISRxD1 / BE1IN (io), 33 P7_4 / TA2OUT / W / INPC1_1 / OUTC1_1 / ISCLK1 (io), 34 P7_3 / TA1IN / ~{V} / ~{CTS}2 / ~{RTS}2 / ~{SS}2 / INPC1_0 / OUTC1_0 / ISTxD1 / BE1OUT (io), 35 P7_2 / TA1OUT / V / CLK2 (io), 36 P7_1 / TB5IN / TA0IN / RxD2 / SCL2 / STxD2 / INPC1_7 / OUTC1_7 (io), 37 P7_0 / TA0OUT / TxD2 / SDA2 / SRxD2 / INPC1_6 / OUTC1_6 (io), 38 P6_7 / TxD1 / SDA1 / SRxD1 (io), 40 P6_6 / RxD1 / SCL1 / STxD1 (io), 42 P6_5 / CLK1 (io), 43 P6_4 / ~{CTS}1 / ~{RTS}1 / ~{SS}1 (io), 44 P6_3 / TxD0 / SDA0 / SRxD0 (io), 45 P6_2 / RxD0 / SCL0 / STxD0 (io), 46 P6_1 / CLK0 (io), 47 P6_0 / ~{CTS}0 / ~{RTS}0 / ~{SS}0 (io), 48 P13_7 (io), 49 P13_6 (io), 50 P13_5 (io), 51 P13_4 (io), 52 P5_7 / ~{RDY} (io), 53 P5_6 / ALE (io), 54 P5_5 / ~{HOLD} (io), 55 P5_4 / ~{HLDA} / ALE (io), 56 P13_3 (io), 58 P13_2 (io), 60 P13_1 (io), 61 P13_0 (io), 62 P5_3 / CLKOUT / BCLK / ALE (io), 63 P5_2 / ~{RD} (io), 64 P5_1 / ~{WRH} / ~{BHE} (io), 65 P5_0 / ~{WRL} / ~{WR} (io), 66 P12_7 (io), 67 P12_6 (io), 68 P12_5 (io), 69 P4_7 / ~{CS}0 / ~{A}23 (io), 70 P4_6 / ~{CS}1 / A22 (io), 71 P4_5 / ~{CS}2 / A21 (io), 72 P4_4 / ~{CS}3 / A20 (io), 73 P4_3 / A19 (io), 75 P4_2 / A18 (io), 77 P4_1 / A17 (io), 78 P4_0 / A16 (io), 79 P3_7 / A15, [A15 / D15] (io), 80 P3_6 / A14, [A14 / D14] (io), 81 P3_5 / A13, [A13 / D13] (io), 82 P3_4 / A12, [A12 / D12] (io), 83 P3_3 / A11, [A11 / D11] (io), 84 P3_2 / A10, [A10 / D10] (io), 85 P3_1 / A9, [A9 / D9] (io), 86 P12_4 (io), 87 P12_3 (io), 88 P12_2 (io), 89 P12_1 (io), 90 P12_0 (io), 92 P3_0 / A8, [A8 / D8] (io), 94 P2_7 / AN2_7 / A7, [A7 / D7] (io), 95 P2_6 / AN2_6 / A6, [A6 / D6] (io), 96 P2_5 / AN2_5 / A5, [A5 / D5] (io), 97 P2_4 / AN2_4 / A4, [A4 / D4] (io), 98 P2_3 / AN2_3 / A3, [A3 / D3] (io), 99 P2_2 / AN2_2 / A2, [A2 / D2] (io), 100 P2_1 / AN2_1 / A1, [A1 / D1] (io), 101 P2_0 / AN2_0 / A0, [A0 / D0] (io), 102 P1_7 / ~{INT}5 / D15 (io), 103 P1_6 / ~{INT}4 / D14 (io), 104 P1_5 / ~{INT}3 / D13 (io), 105 P1_4 / D12 (io), 106 P1_3 / D11 (io), 107 P1_2 / D10 (io), 108 P1_1 / D9 (io), 109 P1_0 / D8 (io), 110 P0_7 / AN0_7 / D7 (io), 111 P0_6 / AN0_6 / D6 (io), 112 P0_5 / AN0_5 / D5 (io), 113 P0_4 / AN0_4 / D4 (io), 114 P11_4 (io), 115 P11_3 / INPC1_3 / OUTC1_3 (io), 116 P11_2 / INPC1_2 / OUTC1_2 / ISRxD1 / BE1IN (io), 117 P11_1 / INPC1_1 / OUTC1_1 / ISCLK1 (io), 118 P11_0 / INPC1_0 / OUTC1_0 / ISTxD1 / BE1OUT (io), 119 P0_3 / AN0_3 / D3 (io), 120 P0_2 / AN0_2 / D2 (io), 121 P0_1 / AN0_1 / D1 (io), 122 P0_0 / AN0_0 / D0 (io), 123 P15_7 / AN15_7 (io), 124 P15_6 / AN15_6 (io), 125 P15_5 / AN15_5 (io), 126 P15_4 / AN15_4 (io), 127 P15_3 / AN15_3 (io), 128 P15_2 / ISRxD0 / AN15_2 (io), 129 P15_1 / ISCLK0 / AN15_1 (io), 131 P15_0 / ISTxD0 / AN15_0 (io), 133 P10_7 / ~{KI}3 / AN_7 (io), 134 P10_6 / ~{KI}2 / AN_6 (io), 135 P10_5 / ~{KI}1 / AN_5 (io), 136 P10_4 / ~{KI}0 / AN_4 (io), 137 P10_3 / AN_3 (io), 138 P10_2 / AN_2 (io), 139 P10_1 / AN_1 (io), 141 P10_0 / AN_0 (io), 142 VREF (in), 144 P9_7 / RxD4 / SCL4 / STxD4 / ~{ADTRG} (io)
part B pins: 21 VSS (power), 23 VCC1 (power), 39 VCC1 (power), 41 VSS (power), 57 VSS (power), 59 VCC2 (power), 74 VCC2 (power), 76 VSS (power), 91 VCC2 (power), 93 VSS (power), 130 VSS (power), 132 VCC1 (power), 140 AVSS (power), 143 AVCC (power)